# Altium integrated library Renesas Microcontroller H8SX.IntLib: 160 symbols (part 1 of 17)
Pins are listed as number, name and electrical type; pins without a type are passive.

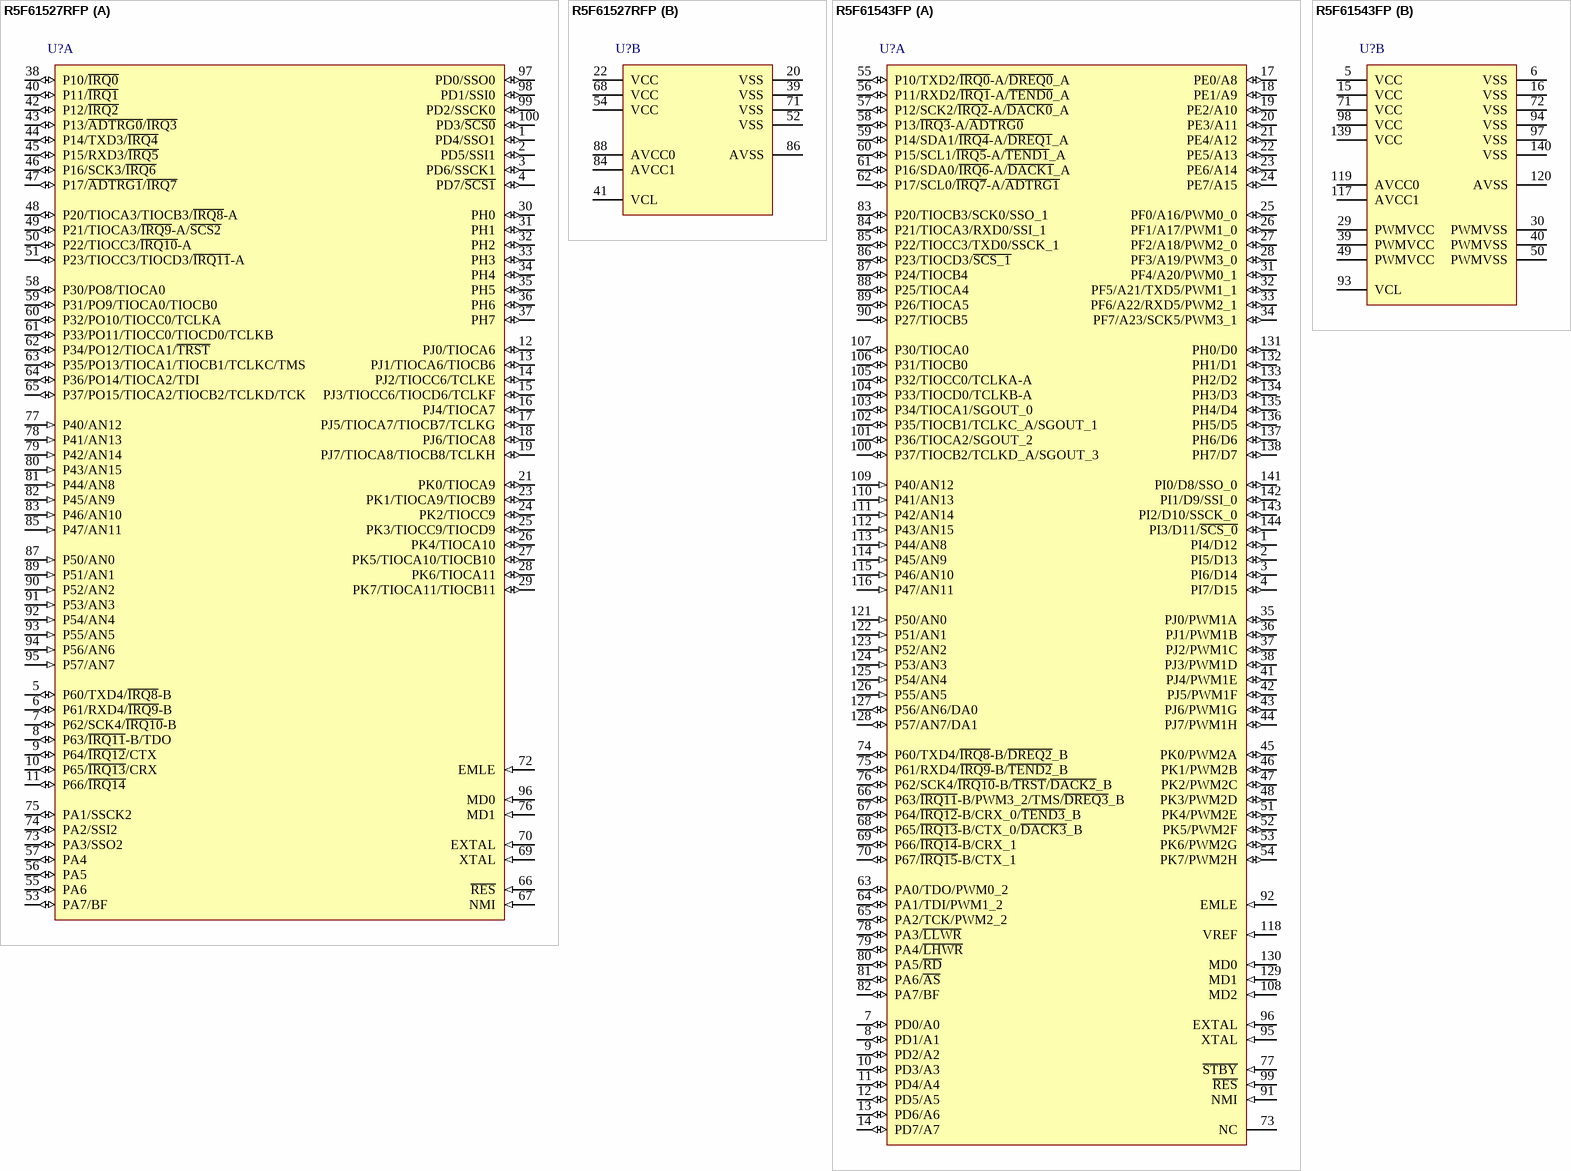
[diagram p0: symbols R5F61527RFP to R5F61543FP]

## R5F61527RFP
designator U?
Flash memory H8SX/1500 Series, 1520R Group MCU, 256K ROM, 12K RAM, FP-100M Pkg; Published: 28-Aug-2009; DatasheetVersion: Rev.1.00, Mar-2006; PackageVersion: Sep-2009; PackageReference: PRQP0100KB-A; Publisher: Altium Limited; PackageDescription: 100-Pin Plastic Quad Flat Pack, 14 x 14 x 2.7 mm Body, 0.5 mm Pitch; Code_JEITA: P-QFP100-14x14-0.50; ComponentLink1Description: Manufacturer Link; ComponentLink1URL: http://sg.renesas.com/fmwk.jsp?cnt=h8sx_family_landing.jsp&fp=/products/mpumcu/h8sx_family/; ComponentLink2Description: Datasheet; ComponentLink2URL: http://documentation.renesas.com/eng/products/mpumcu/rej09b0282_h8sx1520rhm.pdf; ComponentLink3Description: Packaging Specification; ComponentLink3URL: http://sg.renesas.com/media/products/common_info/package/pdf/ic/code/prqp0100kb_a.pdf
footprint PRQP0100KB-A_N (Shrink QFP, 100-Leads, Body 14x14mm, Pitch 0.5mm, IPC Medium Density)
footprint PRQP0100KB-A_L (Shrink QFP, 100-Leads, Body 14x14mm, Pitch 0.5mm, IPC High Density)
footprint PRQP0100KB-A_M (Shrink QFP, 100-Leads, Body 14x14mm, Pitch 0.5mm, IPC Low Density)
part A pins: 1 PD4/SSO1 (io), 2 PD5/SSI1 (io), 3 PD6/SSCK1 (io), 4 PD7/~{SCS1} (io), 5 P60/TXD4/~{IRQ8}-B (io), 6 P61/RXD4/~{IRQ9}-B (io), 7 P62/SCK4/~{IRQ10}-B (io), 8 P63/~{IRQ11}-B/TDO (io), 9 P64/~{IRQ12}/CTX (io), 10 P65/~{IRQ13}/CRX (io), 11 P66/~{IRQ14} (io), 12 PJ0/TIOCA6 (io), 13 PJ1/TIOCA6/TIOCB6 (io), 14 PJ2/TIOCC6/TCLKE (io), 15 PJ3/TIOCC6/TIOCD6/TCLKF (io), 16 PJ4/TIOCA7 (io), 17 PJ5/TIOCA7/TIOCB7/TCLKG (io), 18 PJ6/TIOCA8 (io), 19 PJ7/TIOCA8/TIOCB8/TCLKH (io), 21 PK0/TIOCA9 (io), 23 PK1/TIOCA9/TIOCB9 (io), 24 PK2/TIOCC9 (io), 25 PK3/TIOCC9/TIOCD9 (io), 26 PK4/TIOCA10 (io), 27 PK5/TIOCA10/TIOCB10 (io), 28 PK6/TIOCA11 (io), 29 PK7/TIOCA11/TIOCB11 (io), 30 PH0 (io), 31 PH1 (io), 32 PH2 (io), 33 PH3 (io), 34 PH4 (io), 35 PH5 (io), 36 PH6 (io), 37 PH7 (io), 38 P10/~{IRQ0} (io), 40 P11/~{IRQ1} (io), 42 P12/~{IRQ2} (io), 43 P13/~{ADTRG0}/~{IRQ3} (io), 44 P14/TXD3/~{IRQ4} (io), 45 P15/RXD3/~{IRQ5} (io), 46 P16/SCK3/~{IRQ6} (io), 47 P17/~{ADTRG1}/~{IRQ7} (io), 48 P20/TIOCA3/TIOCB3/~{IRQ8}-A (io), 49 P21/TIOCA3/~{IRQ9}-A/~{SCS2} (io), 50 P22/TIOCC3/~{IRQ10}-A (io), 51 P23/TIOCC3/TIOCD3/~{IRQ11}-A (io), 53 PA7/BF (io), 55 PA6 (io), 56 PA5 (io), 57 PA4 (io), 58 P30/PO8/TIOCA0 (io), 59 P31/PO9/TIOCA0/TIOCB0 (io), 60 P32/PO10/TIOCC0/TCLKA (io), 61 P33/PO11/TIOCC0/TIOCD0/TCLKB (io), 62 P34/PO12/TIOCA1/~{TRST} (io), 63 P35/PO13/TIOCA1/TIOCB1/TCLKC/TMS (io), 64 P36/PO14/TIOCA2/TDI (io), 65 P37/PO15/TIOCA2/TIOCB2/TCLKD/TCK (io), 66 ~{RES} (in), 67 NMI (in), 69 XTAL (in), 70 EXTAL (in), 72 EMLE (in), 73 PA3/SSO2 (io), 74 PA2/SSI2 (io), 75 PA1/SSCK2 (io), 76 MD1 (in), 77 P40/AN12 (in), 78 P41/AN13 (in), 79 P42/AN14 (in), 80 P43/AN15 (in), 81 P44/AN8 (in), 82 P45/AN9 (in), 83 P46/AN10 (in), 85 P47/AN11 (in), 87 P50/AN0 (in), 89 P51/AN1 (in), 90 P52/AN2 (in), 91 P53/AN3 (in), 92 P54/AN4 (in), 93 P55/AN5 (in), 94 P56/AN6 (in), 95 P57/AN7 (in), 96 MD0 (in), 97 PD0/SSO0 (io), 98 PD1/SSI0 (io), 99 PD2/SSCK0 (io), 100 PD3/~{SCS0} (io)
part B pins: 20 VSS, 22 VCC (power), 39 VSS, 41 VCL, 52 VSS, 54 VCC (power), 68 VCC (power), 71 VSS, 84 AVCC1 (power), 86 AVSS, 88 AVCC0 (power)

## R5F61543FP
designator U?
Flash memory H8SX/1500 Series, 1544 Group MCU, 384K ROM, 16K RAM, FP-144L Pkg; Published: 28-Aug-2009; DatasheetVersion: Rev.3.00, Sep-2009; PackageVersion: Sep-2005; PackageReference: PLQP0144KA-A; Publisher: Altium Limited; PackageDescription: 144-Pin Plastic Low Profile QFP, 20 x 20 x 1.4 mm Body, 0.5 mm Pitch; Code_JEITA: P-LQFP144-20x20-0.50; Code_IPC: SQFP50P2200X2200-144; ComponentLink1Description: Manufacturer Link; ComponentLink1URL: http://sg.renesas.com/fmwk.jsp?cnt=h8sx_family_landing.jsp&fp=/products/mpumcu/h8sx_family/; ComponentLink2Description: Datasheet; ComponentLink2URL: http://documentation.renesas.com/eng/products/mpumcu/rej09b0381_h8sx1544hm.pdf; ComponentLink3Description: Packaging Specification; ComponentLink3URL: http://sg.renesas.com/media/products/common_info/package/pdf/ic/code/plqp0144ka_a.pdf
footprint PLQP0144KA-A_N (Shrink QFP, 144-Leads, Body 20x20mm, Pitch 0.5mm, IPC Medium Density)
footprint PLQP0144KA-A_L (Shrink QFP, 144-Leads, Body 20x20mm, Pitch 0.5mm, IPC High Density)
footprint PLQP0144KA-A_M (Shrink QFP, 144-Leads, Body 20x20mm, Pitch 0.5mm, IPC Low Density)
part A pins: 1 PI4/D12 (io), 2 PI5/D13 (io), 3 PI6/D14 (io), 4 PI7/D15 (io), 7 PD0/A0 (io), 8 PD1/A1 (io), 9 PD2/A2 (io), 10 PD3/A3 (io), 11 PD4/A4 (io), 12 PD5/A5 (io), 13 PD6/A6 (io), 14 PD7/A7 (io), 17 PE0/A8 (io), 18 PE1/A9 (io), 19 PE2/A10 (io), 20 PE3/A11 (io), 21 PE4/A12 (io), 22 PE5/A13 (io), 23 PE6/A14 (io), 24 PE7/A15 (io), 25 PF0/A16/PWM0_0 (io), 26 PF1/A17/PWM1_0 (io), 27 PF2/A18/PWM2_0 (io), 28 PF3/A19/PWM3_0 (io), 31 PF4/A20/PWM0_1 (io), 32 PF5/A21/TXD5/PWM1_1 (io), 33 PF6/A22/RXD5/PWM2_1 (io), 34 PF7/A23/SCK5/PWM3_1 (io), 35 PJ0/PWM1A (io), 36 PJ1/PWM1B (io), 37 PJ2/PWM1C (io), 38 PJ3/PWM1D (io), 41 PJ4/PWM1E (io), 42 PJ5/PWM1F (io), 43 PJ6/PWM1G (io), 44 PJ7/PWM1H (io), 45 PK0/PWM2A (io), 46 PK1/PWM2B (io), 47 PK2/PWM2C (io), 48 PK3/PWM2D (io), 51 PK4/PWM2E (io), 52 PK5/PWM2F (io), 53 PK6/PWM2G (io), 54 PK7/PWM2H (io), 55 P10/TXD2/~{IRQ0}-A/~{DREQ0}_A (io), 56 P11/RXD2/~{IRQ1}-A/~{TEND0}_A (io), 57 P12/SCK2/~{IRQ2}-A/~{DACK0}_A (io), 58 P13/~{IRQ3}-A/~{ADTRG0} (io), 59 P14/SDA1/~{IRQ4}-A/~{DREQ1}_A (io), 60 P15/SCL1/~{IRQ5}-A/~{TEND1}_A (io), 61 P16/SDA0/~{IRQ6}-A/~{DACK1}_A (io), 62 P17/SCL0/~{IRQ7}-A/~{ADTRG1} (io), 63 PA0/TDO/PWM0_2 (io), 64 PA1/TDI/PWM1_2 (io), 65 PA2/TCK/PWM2_2 (io), 66 P63/~{IRQ11}-B/PWM3_2/TMS/~{DREQ3}_B (io), 67 P64/~{IRQ12}-B/CRX_0/~{TEND3}_B (io), 68 P65/~{IRQ13}-B/CTX_0/~{DACK3}_B (io), 69 P66/~{IRQ14}-B/CRX_1 (io), 70 P67/~{IRQ15}-B/CTX_1 (io), 73 NC, 74 P60/TXD4/~{IRQ8}-B/~{DREQ2}_B (io), 75 P61/RXD4/~{IRQ9}-B/~{TEND2}_B (io), 76 P62/SCK4/~{IRQ10}-B/~{TRST}/~{DACK2}_B (io), 77 ~{STBY} (in), 78 PA3/~{LLWR} (io), 79 PA4/~{LHWR} (io), 80 PA5/~{RD} (io), 81 PA6/~{AS} (io), 82 PA7/BF (io), 83 P20/TIOCB3/SCK0/SSO_1 (io), 84 P21/TIOCA3/RXD0/SSI_1 (io), 85 P22/TIOCC3/TXD0/SSCK_1 (io), 86 P23/TIOCD3/~{SCS_1} (io), 87 P24/TIOCB4 (io), 88 P25/TIOCA4 (io), 89 P26/TIOCA5 (io), 90 P27/TIOCB5 (io), 91 NMI (in), 92 EMLE (in), 95 XTAL (in), 96 EXTAL (in), 99 ~{RES} (in), 100 P37/TIOCB2/TCLKD_A/SGOUT_3 (io), 101 P36/TIOCA2/SGOUT_2 (io), 102 P35/TIOCB1/TCLKC_A/SGOUT_1 (io), 103 P34/TIOCA1/SGOUT_0 (io), 104 P33/TIOCD0/TCLKB-A (io), 105 P32/TIOCC0/TCLKA-A (io), 106 P31/TIOCB0 (io), 107 P30/TIOCA0 (io), 108 MD2 (in), 109 P40/AN12 (in), 110 P41/AN13 (in), 111 P42/AN14 (in), 112 P43/AN15 (in), 113 P44/AN8 (in), 114 P45/AN9 (in), 115 P46/AN10 (in), 116 P47/AN11 (in), 118 VREF (in), 121 P50/AN0 (in), 122 P51/AN1 (in), 123 P52/AN2 (in), 124 P53/AN3 (in), 125 P54/AN4 (in), 126 P55/AN5 (in), 127 P56/AN6/DA0 (io), 128 P57/AN7/DA1 (io), 129 MD1 (in), 130 MD0 (in), 131 PH0/D0 (io), 132 PH1/D1 (io), 133 PH2/D2 (io), 134 PH3/D3 (io), 135 PH4/D4 (io), 136 PH5/D5 (io), 137 PH6/D6 (io), 138 PH7/D7 (io), 141 PI0/D8/SSO_0 (io), 142 PI1/D9/SSI_0 (io), 143 PI2/D10/SSCK_0 (io), 144 PI3/D11/~{SCS_0} (io)
part B pins: 5 VCC (power), 6 VSS (power), 15 VCC (power), 16 VSS (power), 29 PWMVCC (power), 30 PWMVSS (power), 39 PWMVCC (power), 40 PWMVSS (power), 49 PWMVCC (power), 50 PWMVSS (power), 71 VCC (power), 72 VSS (power), 93 VCL, 94 VSS (power), 97 VSS (power), 98 VCC (power), 117 AVCC1 (power), 119 AVCC0 (power), 120 AVSS (power), 139 VCC (power), 140 VSS (power)

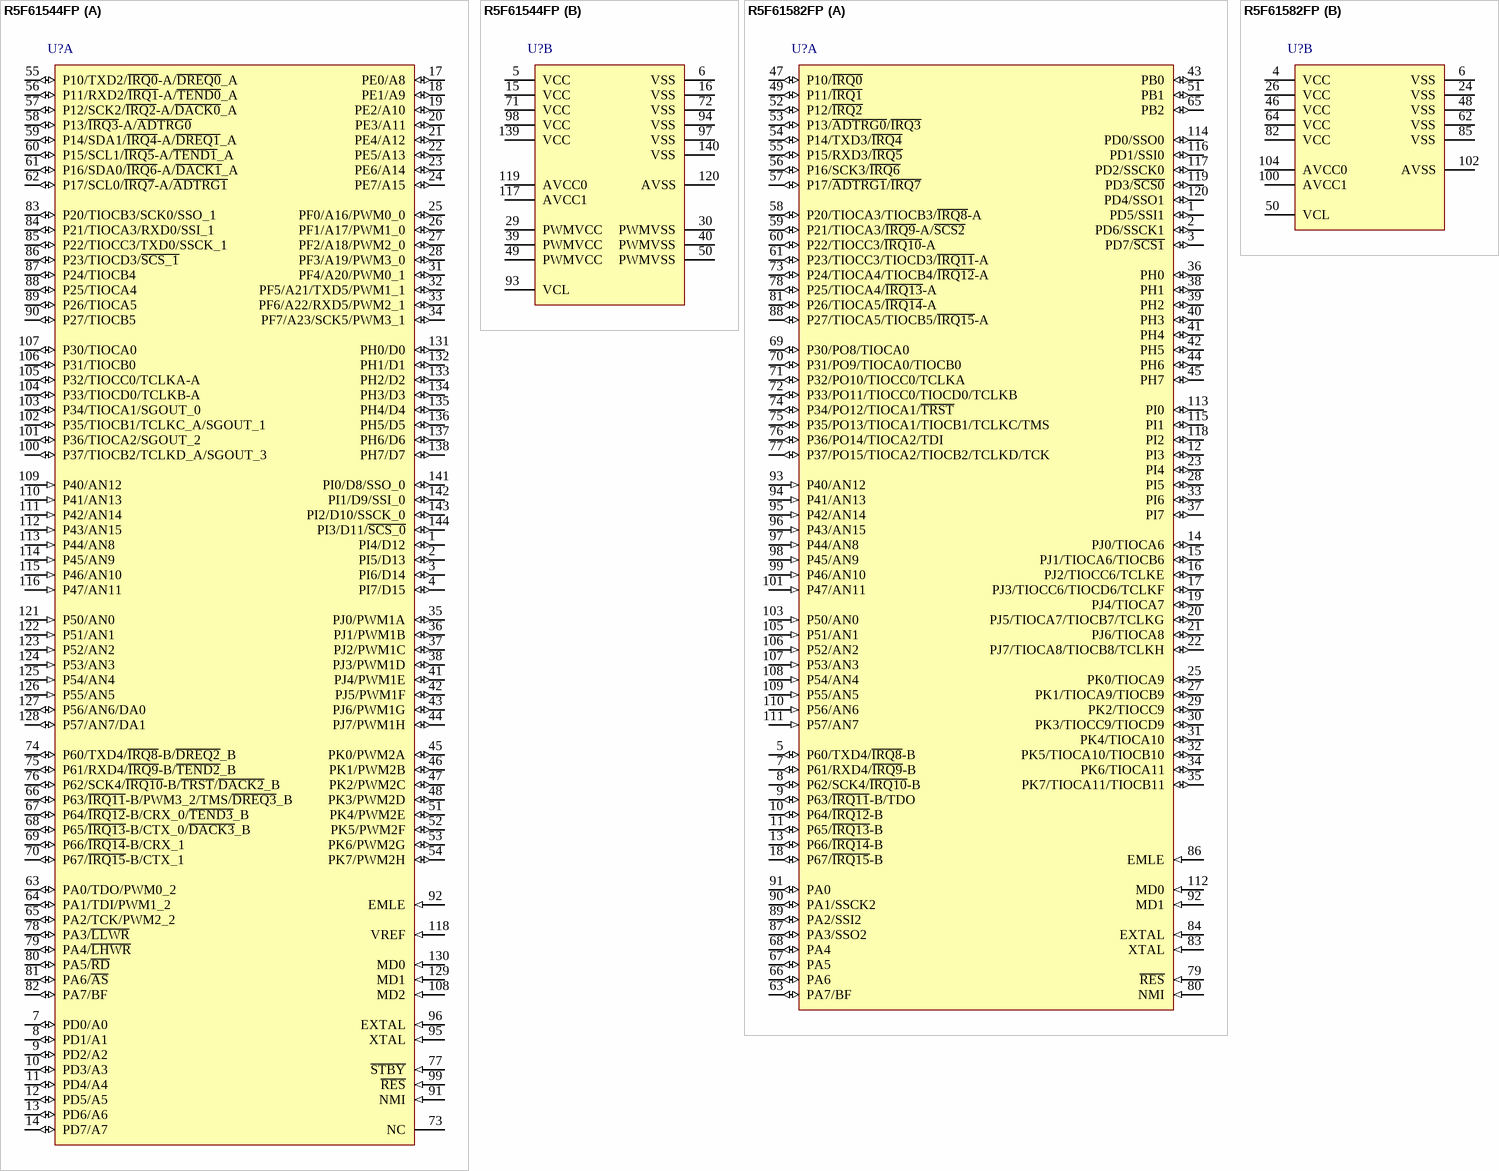
[diagram p1: symbols R5F61544FP to R5F61582FP]

## R5F61544FP
designator U?
Flash memory H8SX/1500 Series, 1544 Group MCU, 512K ROM, 24K RAM, FP-144L Pkg; Published: 28-Aug-2009; DatasheetVersion: Rev.3.00, Sep-2009; PackageVersion: Sep-2005; PackageReference: PLQP0144KA-A; Publisher: Altium Limited; PackageDescription: 144-Pin Plastic Low Profile QFP, 20 x 20 x 1.4 mm Body, 0.5 mm Pitch; Code_JEITA: P-LQFP144-20x20-0.50; Code_IPC: SQFP50P2200X2200-144; ComponentLink1Description: Manufacturer Link; ComponentLink1URL: http://sg.renesas.com/fmwk.jsp?cnt=h8sx_family_landing.jsp&fp=/products/mpumcu/h8sx_family/; ComponentLink2Description: Datasheet; ComponentLink2URL: http://documentation.renesas.com/eng/products/mpumcu/rej09b0381_h8sx1544hm.pdf; ComponentLink3Description: Packaging Specification; ComponentLink3URL: http://sg.renesas.com/media/products/common_info/package/pdf/ic/code/plqp0144ka_a.pdf
footprint PLQP0144KA-A_N (Shrink QFP, 144-Leads, Body 20x20mm, Pitch 0.5mm, IPC Medium Density)
footprint PLQP0144KA-A_L (Shrink QFP, 144-Leads, Body 20x20mm, Pitch 0.5mm, IPC High Density)
footprint PLQP0144KA-A_M (Shrink QFP, 144-Leads, Body 20x20mm, Pitch 0.5mm, IPC Low Density)
part A pins: 1 PI4/D12 (io), 2 PI5/D13 (io), 3 PI6/D14 (io), 4 PI7/D15 (io), 7 PD0/A0 (io), 8 PD1/A1 (io), 9 PD2/A2 (io), 10 PD3/A3 (io), 11 PD4/A4 (io), 12 PD5/A5 (io), 13 PD6/A6 (io), 14 PD7/A7 (io), 17 PE0/A8 (io), 18 PE1/A9 (io), 19 PE2/A10 (io), 20 PE3/A11 (io), 21 PE4/A12 (io), 22 PE5/A13 (io), 23 PE6/A14 (io), 24 PE7/A15 (io), 25 PF0/A16/PWM0_0 (io), 26 PF1/A17/PWM1_0 (io), 27 PF2/A18/PWM2_0 (io), 28 PF3/A19/PWM3_0 (io), 31 PF4/A20/PWM0_1 (io), 32 PF5/A21/TXD5/PWM1_1 (io), 33 PF6/A22/RXD5/PWM2_1 (io), 34 PF7/A23/SCK5/PWM3_1 (io), 35 PJ0/PWM1A (io), 36 PJ1/PWM1B (io), 37 PJ2/PWM1C (io), 38 PJ3/PWM1D (io), 41 PJ4/PWM1E (io), 42 PJ5/PWM1F (io), 43 PJ6/PWM1G (io), 44 PJ7/PWM1H (io), 45 PK0/PWM2A (io), 46 PK1/PWM2B (io), 47 PK2/PWM2C (io), 48 PK3/PWM2D (io), 51 PK4/PWM2E (io), 52 PK5/PWM2F (io), 53 PK6/PWM2G (io), 54 PK7/PWM2H (io), 55 P10/TXD2/~{IRQ0}-A/~{DREQ0}_A (io), 56 P11/RXD2/~{IRQ1}-A/~{TEND0}_A (io), 57 P12/SCK2/~{IRQ2}-A/~{DACK0}_A (io), 58 P13/~{IRQ3}-A/~{ADTRG0} (io), 59 P14/SDA1/~{IRQ4}-A/~{DREQ1}_A (io), 60 P15/SCL1/~{IRQ5}-A/~{TEND1}_A (io), 61 P16/SDA0/~{IRQ6}-A/~{DACK1}_A (io), 62 P17/SCL0/~{IRQ7}-A/~{ADTRG1} (io), 63 PA0/TDO/PWM0_2 (io), 64 PA1/TDI/PWM1_2 (io), 65 PA2/TCK/PWM2_2 (io), 66 P63/~{IRQ11}-B/PWM3_2/TMS/~{DREQ3}_B (io), 67 P64/~{IRQ12}-B/CRX_0/~{TEND3}_B (io), 68 P65/~{IRQ13}-B/CTX_0/~{DACK3}_B (io), 69 P66/~{IRQ14}-B/CRX_1 (io), 70 P67/~{IRQ15}-B/CTX_1 (io), 73 NC, 74 P60/TXD4/~{IRQ8}-B/~{DREQ2}_B (io), 75 P61/RXD4/~{IRQ9}-B/~{TEND2}_B (io), 76 P62/SCK4/~{IRQ10}-B/~{TRST}/~{DACK2}_B (io), 77 ~{STBY} (in), 78 PA3/~{LLWR} (io), 79 PA4/~{LHWR} (io), 80 PA5/~{RD} (io), 81 PA6/~{AS} (io), 82 PA7/BF (io), 83 P20/TIOCB3/SCK0/SSO_1 (io), 84 P21/TIOCA3/RXD0/SSI_1 (io), 85 P22/TIOCC3/TXD0/SSCK_1 (io), 86 P23/TIOCD3/~{SCS_1} (io), 87 P24/TIOCB4 (io), 88 P25/TIOCA4 (io), 89 P26/TIOCA5 (io), 90 P27/TIOCB5 (io), 91 NMI (in), 92 EMLE (in), 95 XTAL (in), 96 EXTAL (in), 99 ~{RES} (in), 100 P37/TIOCB2/TCLKD_A/SGOUT_3 (io), 101 P36/TIOCA2/SGOUT_2 (io), 102 P35/TIOCB1/TCLKC_A/SGOUT_1 (io), 103 P34/TIOCA1/SGOUT_0 (io), 104 P33/TIOCD0/TCLKB-A (io), 105 P32/TIOCC0/TCLKA-A (io), 106 P31/TIOCB0 (io), 107 P30/TIOCA0 (io), 108 MD2 (in), 109 P40/AN12 (in), 110 P41/AN13 (in), 111 P42/AN14 (in), 112 P43/AN15 (in), 113 P44/AN8 (in), 114 P45/AN9 (in), 115 P46/AN10 (in), 116 P47/AN11 (in), 118 VREF (in), 121 P50/AN0 (in), 122 P51/AN1 (in), 123 P52/AN2 (in), 124 P53/AN3 (in), 125 P54/AN4 (in), 126 P55/AN5 (in), 127 P56/AN6/DA0 (io), 128 P57/AN7/DA1 (io), 129 MD1 (in), 130 MD0 (in), 131 PH0/D0 (io), 132 PH1/D1 (io), 133 PH2/D2 (io), 134 PH3/D3 (io), 135 PH4/D4 (io), 136 PH5/D5 (io), 137 PH6/D6 (io), 138 PH7/D7 (io), 141 PI0/D8/SSO_0 (io), 142 PI1/D9/SSI_0 (io), 143 PI2/D10/SSCK_0 (io), 144 PI3/D11/~{SCS_0} (io)
part B pins: 5 VCC (power), 6 VSS (power), 15 VCC (power), 16 VSS (power), 29 PWMVCC (power), 30 PWMVSS (power), 39 PWMVCC (power), 40 PWMVSS (power), 49 PWMVCC (power), 50 PWMVSS (power), 71 VCC (power), 72 VSS (power), 93 VCL, 94 VSS (power), 97 VSS (power), 98 VCC (power), 117 AVCC1 (power), 119 AVCC0 (power), 120 AVSS (power), 139 VCC (power), 140 VSS (power)

## R5F61582FP
designator U?
Flash memory H8SX/1500 Series, 1580 Group MCU, 256K ROM, 12K RAM, FP-120B Pkg; Published: 28-Aug-2009; DatasheetVersion: Rev.2.00, Mar-2006; PackageVersion: Sep-2005; PackageReference: PLQP0120LA-A; Publisher: Altium Limited; PackageDescription: 120-Pin Plastic Low Profile QFP, 14 x 14 x 1.4 mm Body, 0.4 mm Pitch; Code_JEITA: P-LQFP120-14x14-0.40; ComponentLink1Description: Manufacturer Link; ComponentLink1URL: http://sg.renesas.com/fmwk.jsp?cnt=h8sx_family_landing.jsp&fp=/products/mpumcu/h8sx_family/; ComponentLink2Description: Datasheet; ComponentLink2URL: http://documentation.renesas.com/eng/products/mpumcu/rej09b0199_h8sx1582.pdf; ComponentLink3Description: Packaging Specification; ComponentLink3URL: http://sg.renesas.com/media/products/common_info/package/pdf/ic/code/plqp0120la_a.pdf
footprint PLQP0120LA-A_N (Shrink QFP, 120-Leads, Body 14x14mm, Pitch 0.4mm, IPC Medium Density)
footprint PLQP0120LA-A_L (Shrink QFP, 120-Leads, Body 14x14mm, Pitch 0.4mm, IPC High Density)
footprint PLQP0120LA-A_M (Shrink QFP, 120-Leads, Body 14x14mm, Pitch 0.4mm, IPC Low Density)
part A pins: 1 PD5/SSI1 (io), 2 PD6/SSCK1 (io), 3 PD7/~{SCS1} (io), 5 P60/TXD4/~{IRQ8}-B (io), 7 P61/RXD4/~{IRQ9}-B (io), 8 P62/SCK4/~{IRQ10}-B (io), 9 P63/~{IRQ11}-B/TDO (io), 10 P64/~{IRQ12}-B (io), 11 P65/~{IRQ13}-B (io), 12 PI3 (io), 13 P66/~{IRQ14}-B (io), 14 PJ0/TIOCA6 (io), 15 PJ1/TIOCA6/TIOCB6 (io), 16 PJ2/TIOCC6/TCLKE (io), 17 PJ3/TIOCC6/TIOCD6/TCLKF (io), 18 P67/~{IRQ15}-B (io), 19 PJ4/TIOCA7 (io), 20 PJ5/TIOCA7/TIOCB7/TCLKG (io), 21 PJ6/TIOCA8 (io), 22 PJ7/TIOCA8/TIOCB8/TCLKH (io), 23 PI4 (io), 25 PK0/TIOCA9 (io), 27 PK1/TIOCA9/TIOCB9 (io), 28 PI5 (io), 29 PK2/TIOCC9 (io), 30 PK3/TIOCC9/TIOCD9 (io), 31 PK4/TIOCA10 (io), 32 PK5/TIOCA10/TIOCB10 (io), 33 PI6 (io), 34 PK6/TIOCA11 (io), 35 PK7/TIOCA11/TIOCB11 (io), 36 PH0 (io), 37 PI7 (io), 38 PH1 (io), 39 PH2 (io), 40 PH3 (io), 41 PH4 (io), 42 PH5 (io), 43 PB0 (io), 44 PH6 (io), 45 PH7 (io), 47 P10/~{IRQ0} (io), 49 P11/~{IRQ1} (io), 51 PB1 (io), 52 P12/~{IRQ2} (io), 53 P13/~{ADTRG0}/~{IRQ3} (io), 54 P14/TXD3/~{IRQ4} (io), 55 P15/RXD3/~{IRQ5} (io), 56 P16/SCK3/~{IRQ6} (io), 57 P17/~{ADTRG1}/~{IRQ7} (io), 58 P20/TIOCA3/TIOCB3/~{IRQ8}-A (io), 59 P21/TIOCA3/~{IRQ9}-A/~{SCS2} (io), 60 P22/TIOCC3/~{IRQ10}-A (io), 61 P23/TIOCC3/TIOCD3/~{IRQ11}-A (io), 63 PA7/BF (io), 65 PB2 (io), 66 PA6 (io), 67 PA5 (io), 68 PA4 (io), 69 P30/PO8/TIOCA0 (io), 70 P31/PO9/TIOCA0/TIOCB0 (io), 71 P32/PO10/TIOCC0/TCLKA (io), 72 P33/PO11/TIOCC0/TIOCD0/TCLKB (io), 73 P24/TIOCA4/TIOCB4/~{IRQ12}-A (io), 74 P34/PO12/TIOCA1/~{TRST} (io), 75 P35/PO13/TIOCA1/TIOCB1/TCLKC/TMS (io), 76 P36/PO14/TIOCA2/TDI (io), 77 P37/PO15/TIOCA2/TIOCB2/TCLKD/TCK (io), 78 P25/TIOCA4/~{IRQ13}-A (io), 79 ~{RES} (in), 80 NMI (in), 81 P26/TIOCA5/~{IRQ14}-A (io), 83 XTAL (in), 84 EXTAL (in), 86 EMLE (in), 87 PA3/SSO2 (io), 88 P27/TIOCA5/TIOCB5/~{IRQ15}-A (io), 89 PA2/SSI2 (io), 90 PA1/SSCK2 (io), 91 PA0 (io), 92 MD1 (in), 93 P40/AN12 (in), 94 P41/AN13 (in), 95 P42/AN14 (in), 96 P43/AN15 (in), 97 P44/AN8 (in), 98 P45/AN9 (in), 99 P46/AN10 (in), 101 P47/AN11 (in), 103 P50/AN0 (in), 105 P51/AN1 (in), 106 P52/AN2 (in), 107 P53/AN3 (in), 108 P54/AN4 (in), 109 P55/AN5 (in), 110 P56/AN6 (in), 111 P57/AN7 (in), 112 MD0 (in), 113 PI0 (io), 114 PD0/SSO0 (io), 115 PI1 (io), 116 PD1/SSI0 (io), 117 PD2/SSCK0 (io), 118 PI2 (io), 119 PD3/~{SCS0} (io), 120 PD4/SSO1 (io)
part B pins: 4 VCC (power), 6 VSS (power), 24 VSS (power), 26 VCC (power), 46 VCC (power), 48 VSS (power), 50 VCL, 62 VSS (power), 64 VCC (power), 82 VCC (power), 85 VSS (power), 100 AVCC1 (power), 102 AVSS (power), 104 AVCC0 (power)

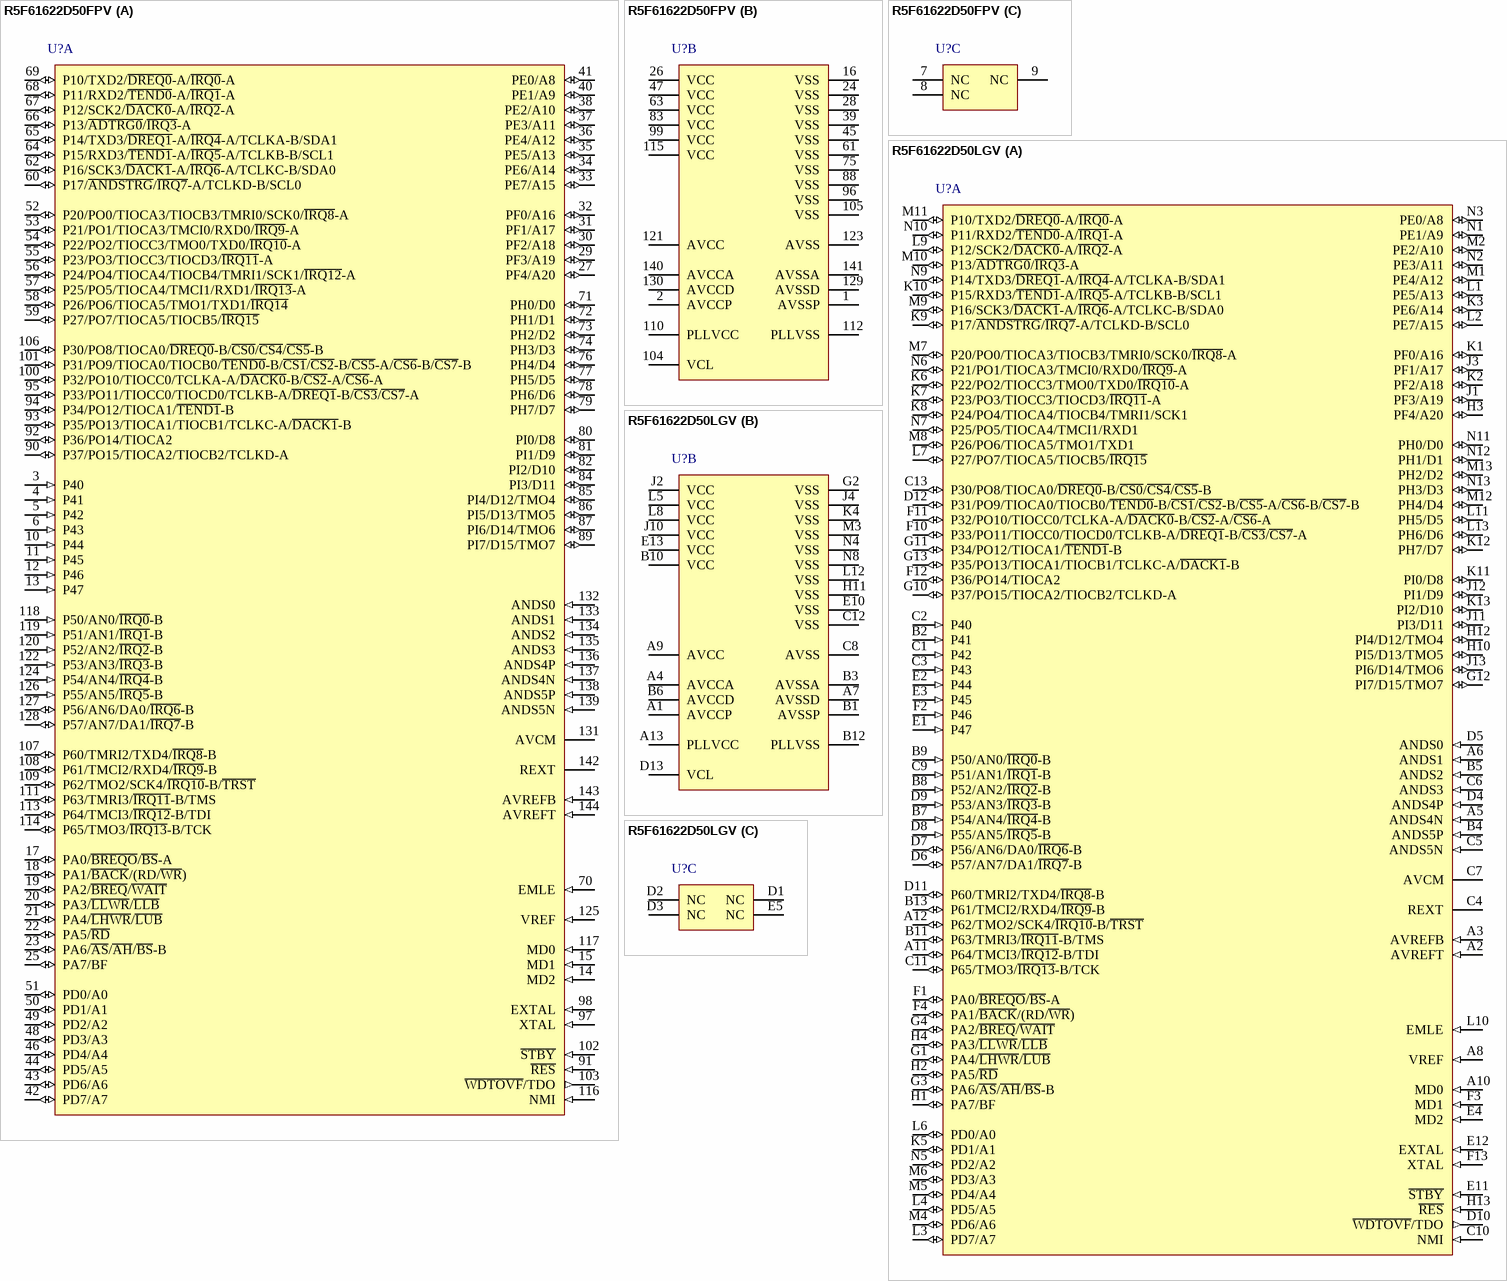
[diagram p2: symbols R5F61622D50FPV to R5F61622D50LGV]

## R5F61622D50FPV
designator U?
Flash memory H8SX/1600 Series, 1622 Group MCU, 256K ROM, 24K RAM, FP-144L Pkg; Published: 28-Aug-2009; DatasheetVersion: Rev.2.00, Sep-2009; PackageVersion: Sep-2005; PackageReference: PLQP0144KA-A; Publisher: Altium Limited; PackageDescription: 144-Pin Plastic Low Profile QFP, 20 x 20 x 1.4 mm Body, 0.5 mm Pitch; Code_JEITA: P-LQFP144-20x20-0.50; Code_IPC: SQFP50P2200X2200-144; ComponentLink1Description: Manufacturer Link; ComponentLink1URL: http://sg.renesas.com/fmwk.jsp?cnt=h8sx_family_landing.jsp&fp=/products/mpumcu/h8sx_family/; ComponentLink2Description: Datasheet; ComponentLink2URL: http://documentation.renesas.com/eng/products/mpumcu/rej09b0414_h8sx1622hm.pdf; ComponentLink3Description: Packaging Specification; ComponentLink3URL: http://sg.renesas.com/media/products/common_info/package/pdf/ic/code/plqp0144ka_a.pdf
footprint PLQP0144KA-A_N (Shrink QFP, 144-Leads, Body 20x20mm, Pitch 0.5mm, IPC Medium Density)
footprint PLQP0144KA-A_L (Shrink QFP, 144-Leads, Body 20x20mm, Pitch 0.5mm, IPC High Density)
footprint PLQP0144KA-A_M (Shrink QFP, 144-Leads, Body 20x20mm, Pitch 0.5mm, IPC Low Density)
part A pins: 3 P40 (in), 4 P41 (in), 5 P42 (in), 6 P43 (in), 10 P44 (in), 11 P45 (in), 12 P46 (in), 13 P47 (in), 14 MD2 (in), 15 MD1 (in), 17 PA0/~{BREQO}/~{BS}-A (io), 18 PA1/~{BACK}/(RD/~{WR}) (io), 19 PA2/~{BREQ}/~{WAIT} (io), 20 PA3/~{LLWR}/~{LLB} (io), 21 PA4/~{LHWR}/~{LUB} (io), 22 PA5/~{RD} (io), 23 PA6/~{AS}/~{AH}/~{BS}-B (io), 25 PA7/BF (io), 27 PF4/A20 (io), 29 PF3/A19 (io), 30 PF2/A18 (io), 31 PF1/A17 (io), 32 PF0/A16 (io), 33 PE7/A15 (io), 34 PE6/A14 (io), 35 PE5/A13 (io), 36 PE4/A12 (io), 37 PE3/A11 (io), 38 PE2/A10 (io), 40 PE1/A9 (io), 41 PE0/A8 (io), 42 PD7/A7 (io), 43 PD6/A6 (io), 44 PD5/A5 (io), 46 PD4/A4 (io), 48 PD3/A3 (io), 49 PD2/A2 (io), 50 PD1/A1 (io), 51 PD0/A0 (io), 52 P20/PO0/TIOCA3/TIOCB3/TMRI0/SCK0/~{IRQ8}-A (io), 53 P21/PO1/TIOCA3/TMCI0/RXD0/~{IRQ9}-A (io), 54 P22/PO2/TIOCC3/TMO0/TXD0/~{IRQ10}-A (io), 55 P23/PO3/TIOCC3/TIOCD3/~{IRQ11}-A (io), 56 P24/PO4/TIOCA4/TIOCB4/TMRI1/SCK1/~{IRQ12}-A (io), 57 P25/PO5/TIOCA4/TMCI1/RXD1/~{IRQ13}-A (io), 58 P26/PO6/TIOCA5/TMO1/TXD1/~{IRQ14} (io), 59 P27/PO7/TIOCA5/TIOCB5/~{IRQ15} (io), 60 P17/~{ANDSTRG}/~{IRQ7}-A/TCLKD-B/SCL0 (io), 62 P16/SCK3/~{DACK1}-A/~{IRQ6}-A/TCLKC-B/SDA0 (io), 64 P15/RXD3/~{TEND1}-A/~{IRQ5}-A/TCLKB-B/SCL1 (io), 65 P14/TXD3/~{DREQ1}-A/~{IRQ4}-A/TCLKA-B/SDA1 (io), 66 P13/~{ADTRG0}/~{IRQ3}-A (io), 67 P12/SCK2/~{DACK0}-A/~{IRQ2}-A (io), 68 P11/RXD2/~{TEND0}-A/~{IRQ1}-A (io), 69 P10/TXD2/~{DREQ0}-A/~{IRQ0}-A (io), 70 EMLE (in), 71 PH0/D0 (io), 72 PH1/D1 (io), 73 PH2/D2 (io), 74 PH3/D3 (io), 76 PH4/D4 (io), 77 PH5/D5 (io), 78 PH6/D6 (io), 79 PH7/D7 (io), 80 PI0/D8 (io), 81 PI1/D9 (io), 82 PI2/D10 (io), 84 PI3/D11 (io), 85 PI4/D12/TMO4 (io), 86 PI5/D13/TMO5 (io), 87 PI6/D14/TMO6 (io), 89 PI7/D15/TMO7 (io), 90 P37/PO15/TIOCA2/TIOCB2/TCLKD-A (io), 91 ~{RES} (in), 92 P36/PO14/TIOCA2 (io), 93 P35/PO13/TIOCA1/TIOCB1/TCLKC-A/~{DACK1}-B (io), 94 P34/PO12/TIOCA1/~{TEND1}-B (io), 95 P33/PO11/TIOCC0/TIOCD0/TCLKB-A/~{DREQ1}-B/~{CS3}/~{CS7}-A (io), 97 XTAL (in), 98 EXTAL (in), 100 P32/PO10/TIOCC0/TCLKA-A/~{DACK0}-B/~{CS2}-A/~{CS6}-A (io), 101 P31/PO9/TIOCA0/TIOCB0/~{TEND0}-B/~{CS1}/~{CS2}-B/~{CS5}-A/~{CS6}-B/~{CS7}-B (io), 102 ~{STBY} (in), 103 ~{WDTOVF}/TDO (out), 106 P30/PO8/TIOCA0/~{DREQ0}-B/~{CS0}/~{CS4}/~{CS5}-B (io), 107 P60/TMRI2/TXD4/~{IRQ8}-B (io), 108 P61/TMCI2/RXD4/~{IRQ9}-B (io), 109 P62/TMO2/SCK4/~{IRQ10}-B/~{TRST} (io), 111 P63/TMRI3/~{IRQ11}-B/TMS (io), 113 P64/TMCI3/~{IRQ12}-B/TDI (io), 114 P65/TMO3/~{IRQ13}-B/TCK (io), 116 NMI (in), 117 MD0 (in), 118 P50/AN0/~{IRQ0}-B (in), 119 P51/AN1/~{IRQ1}-B (in), 120 P52/AN2/~{IRQ2}-B (in), 122 P53/AN3/~{IRQ3}-B (in), 124 P54/AN4/~{IRQ4}-B (in), 125 VREF (in), 126 P55/AN5/~{IRQ5}-B (in), 127 P56/AN6/DA0/~{IRQ6}-B (io), 128 P57/AN7/DA1/~{IRQ7}-B (io), 131 AVCM, 132 ANDS0 (in), 133 ANDS1 (in), 134 ANDS2 (in), 135 ANDS3 (in), 136 ANDS4P (in), 137 ANDS4N (in), 138 ANDS5P (in), 139 ANDS5N (in), 142 REXT, 143 AVREFB (in), 144 AVREFT (in)
part B pins: 1 AVSSP (power), 2 AVCCP (power), 16 VSS (power), 24 VSS (power), 26 VCC (power), 28 VSS (power), 39 VSS (power), 45 VSS (power), 47 VCC (power), 61 VSS (power), 63 VCC (power), 75 VSS (power), 83 VCC (power), 88 VSS (power), 96 VSS (power), 99 VCC (power), 104 VCL, 105 VSS (power), 110 PLLVCC (power), 112 PLLVSS (power), 115 VCC (power), 121 AVCC (power), 123 AVSS (power), 129 AVSSD (power), 130 AVCCD (power), 140 AVCCA (power), 141 AVSSA (power)
part C pins: 7 NC, 8 NC, 9 NC

## R5F61622D50LGV
designator U?
Flash memory H8SX/1600 Series, 1622 Group MCU, 256K ROM, 24K RAM, TLP-145V Pkg; Published: 28-Aug-2009; DatasheetVersion: Rev.2.00, Sep-2009; PackageVersion: Jun-2006; PackageReference: PTLG0145JB-A; Publisher: Altium Limited; PackageDescription: 145-Ball Plastic Thin Fine-Pitch BGA, 9 x 9 mm Body, 0.65 mm Pitch; Code_JEITA: P-TFLGA145-9x9-0.65; ComponentLink1Description: Manufacturer Link; ComponentLink1URL: http://sg.renesas.com/fmwk.jsp?cnt=h8sx_family_landing.jsp&fp=/products/mpumcu/h8sx_family/; ComponentLink2Description: Datasheet; ComponentLink2URL: http://documentation.renesas.com/eng/products/mpumcu/rej09b0414_h8sx1622hm.pdf; ComponentLink3Description: Packaging Specification; ComponentLink3URL: http://sg.renesas.com/media/products/common_info/package/pdf/ic/code/ptlg0145jb_a.pdf
footprint PTLG0145JB-A (BGA, 145-Leads, Body 9x9mm, Pitch 0.65mm)
part A pins: A2 AVREFT (in), A3 AVREFB (in), A5 ANDS4N (in), A6 ANDS1 (in), A8 VREF (in), A10 MD0 (in), A11 P64/TMCI3/~{IRQ12}-B/TDI (io), A12 P62/TMO2/SCK4/~{IRQ10}-B/~{TRST} (io), B2 P41 (in), B4 ANDS5P (in), B5 ANDS2 (in), B7 P54/AN4/~{IRQ4}-B (in), B8 P52/AN2/~{IRQ2}-B (in), B9 P50/AN0/~{IRQ0}-B (in), B11 P63/TMRI3/~{IRQ11}-B/TMS (io), B13 P61/TMCI2/RXD4/~{IRQ9}-B (io), C1 P42 (in), C2 P40 (in), C3 P43 (in), C4 REXT, C5 ANDS5N (in), C6 ANDS3 (in), C7 AVCM, C9 P51/AN1/~{IRQ1}-B (in), C10 NMI (in), C11 P65/TMO3/~{IRQ13}-B/TCK (io), C13 P30/PO8/TIOCA0/~{DREQ0}-B/~{CS0}/~{CS4}/~{CS5}-B (io), D4 ANDS4P (in), D5 ANDS0 (in), D6 P57/AN7/DA1/~{IRQ7}-B (io), D7 P56/AN6/DA0/~{IRQ6}-B (io), D8 P55/AN5/~{IRQ5}-B (in), D9 P53/AN3/~{IRQ3}-B (in), D10 ~{WDTOVF}/TDO (out), D11 P60/TMRI2/TXD4/~{IRQ8}-B (io), D12 P31/PO9/TIOCA0/TIOCB0/~{TEND0}-B/~{CS1}/~{CS2}-B/~{CS5}-A/~{CS6}-B/~{CS7}-B (io), E1 P47 (in), E2 P44 (in), E3 P45 (in), E4 MD2 (in), E11 ~{STBY} (in), E12 EXTAL (in), F1 PA0/~{BREQO}/~{BS}-A (io), F2 P46 (in), F3 MD1 (in), F4 PA1/~{BACK}/(RD/~{WR}) (io), F10 P33/PO11/TIOCC0/TIOCD0/TCLKB-A/~{DREQ1}-B/~{CS3}/~{CS7}-A (io), F11 P32/PO10/TIOCC0/TCLKA-A/~{DACK0}-B/~{CS2}-A/~{CS6}-A (io), F12 P36/PO14/TIOCA2 (io), F13 XTAL (in), G1 PA4/~{LHWR}/~{LUB} (io), G3 PA6/~{AS}/~{AH}/~{BS}-B (io), G4 PA2/~{BREQ}/~{WAIT} (io), G10 P37/PO15/TIOCA2/TIOCB2/TCLKD-A (io), G11 P34/PO12/TIOCA1/~{TEND1}-B (io), G12 PI7/D15/TMO7 (io), G13 P35/PO13/TIOCA1/TIOCB1/TCLKC-A/~{DACK1}-B (io), H1 PA7/BF (io), H2 PA5/~{RD} (io), H3 PF4/A20 (io), H4 PA3/~{LLWR}/~{LLB} (io), H10 PI5/D13/TMO5 (io), H12 PI4/D12/TMO4 (io), H13 ~{RES} (in), J1 PF3/A19 (io), J3 PF1/A17 (io), J11 PI3/D11 (io), J12 PI1/D9 (io), J13 PI6/D14/TMO6 (io), K1 PF0/A16 (io), K2 PF2/A18 (io), K3 PE6/A14 (io), K5 PD1/A1 (io), K6 P22/PO2/TIOCC3/TMO0/TXD0/~{IRQ10}-A (io), K7 P23/PO3/TIOCC3/TIOCD3/~{IRQ11}-A (io), K8 P24/PO4/TIOCA4/TIOCB4/TMRI1/SCK1 (io), K9 P17/~{ANDSTRG}/~{IRQ7}-A/TCLKD-B/SCL0 (io), K10 P15/RXD3/~{TEND1}-A/~{IRQ5}-A/TCLKB-B/SCL1 (io), K11 PI0/D8 (io), K12 PH7/D7 (io), K13 PI2/D10 (io), L1 PE5/A13 (io), L2 PE7/A15 (io), L3 PD7/A7 (io), L4 PD5/A5 (io), L6 PD0/A0 (io), L7 P27/PO7/TIOCA5/TIOCB5/~{IRQ15} (io), L9 P12/SCK2/~{DACK0}-A/~{IRQ2}-A (io), L10 EMLE (in), L11 PH5/D5 (io), L13 PH6/D6 (io), M1 PE4/A12 (io), M2 PE2/A10 (io), M4 PD6/A6 (io), M5 PD4/A4 (io), M6 PD3/A3 (io), M7 P20/PO0/TIOCA3/TIOCB3/TMRI0/SCK0/~{IRQ8}-A (io), M8 P26/PO6/TIOCA5/TMO1/TXD1 (io), M9 P16/SCK3/~{DACK1}-A/~{IRQ6}-A/TCLKC-B/SDA0 (io), M10 P13/~{ADTRG0}/~{IRQ3}-A (io), M11 P10/TXD2/~{DREQ0}-A/~{IRQ0}-A (io), M12 PH4/D4 (io), M13 PH2/D2 (io), N1 PE1/A9 (io), N2 PE3/A11 (io), N3 PE0/A8 (io), N5 PD2/A2 (io), N6 P21/PO1/TIOCA3/TMCI0/RXD0/~{IRQ9}-A (io), N7 P25/PO5/TIOCA4/TMCI1/RXD1 (io), N9 P14/TXD3/~{DREQ1}-A/~{IRQ4}-A/TCLKA-B/SDA1 (io), N10 P11/RXD2/~{TEND0}-A/~{IRQ1}-A (io), N11 PH0/D0 (io), N12 PH1/D1 (io), N13 PH3/D3 (io)
part B pins: A1 AVCCP (power), A4 AVCCA (power), A7 AVSSD (power), A9 AVCC (power), A13 PLLVCC (power), B1 AVSSP (power), B3 AVSSA (power), B6 AVCCD (power), B10 VCC (power), B12 PLLVSS (power), C8 AVSS (power), C12 VSS (power), D13 VCL, E10 VSS (power), E13 VCC (power), G2 VSS (power), H11 VSS (power), J2 VCC (power), J4 VSS (power), J10 VCC (power), K4 VSS (power), L5 VCC (power), L8 VCC (power), L12 VSS (power), M3 VSS (power), N4 VSS (power), N8 VSS (power)
part C pins: D1 NC, D2 NC, D3 NC, E5 NC

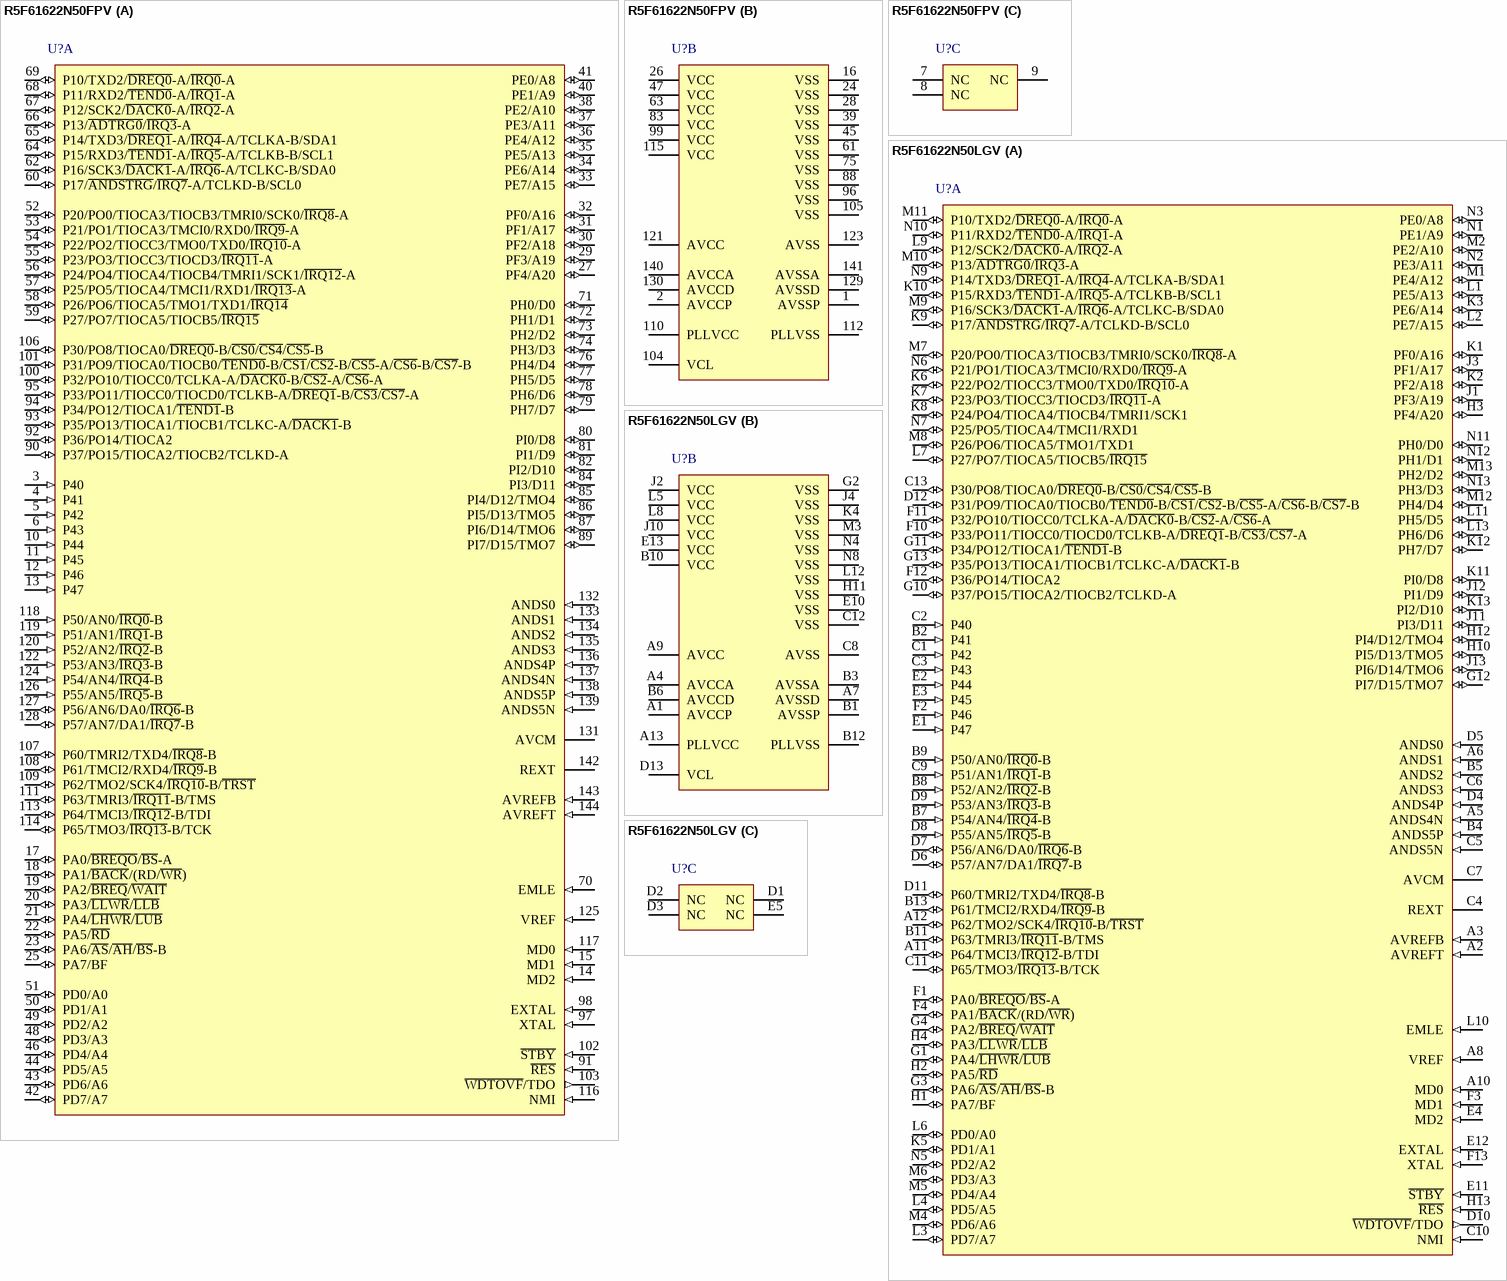
[diagram p3: symbols R5F61622N50FPV to R5F61622N50LGV]

## R5F61622N50FPV
designator U?
Flash memory H8SX/1600 Series, 1622 Group MCU, 256K ROM, 24K RAM, FP-144L Pkg; Published: 28-Aug-2009; DatasheetVersion: Rev.2.00, Sep-2009; PackageVersion: Sep-2005; PackageReference: PLQP0144KA-A; Publisher: Altium Limited; PackageDescription: 144-Pin Plastic Low Profile QFP, 20 x 20 x 1.4 mm Body, 0.5 mm Pitch; Supplier 1: Digi-Key; Supplier Part Number 1: R5F61622N50FPV-ND; Supplier 2: Farnell; Supplier Part Number 2: 1677793; Code_JEITA: P-LQFP144-20x20-0.50; Code_IPC: SQFP50P2200X2200-144; ComponentLink1Description: Manufacturer Link; ComponentLink1URL: http://sg.renesas.com/fmwk.jsp?cnt=h8sx_family_landing.jsp&fp=/products/mpumcu/h8sx_family/; ComponentLink2Description: Datasheet; ComponentLink2URL: http://documentation.renesas.com/eng/products/mpumcu/rej09b0414_h8sx1622hm.pdf; ComponentLink3Description: Packaging Specification; ComponentLink3URL: http://sg.renesas.com/media/products/common_info/package/pdf/ic/code/plqp0144ka_a.pdf
footprint PLQP0144KA-A_N (Shrink QFP, 144-Leads, Body 20x20mm, Pitch 0.5mm, IPC Medium Density)
footprint PLQP0144KA-A_L (Shrink QFP, 144-Leads, Body 20x20mm, Pitch 0.5mm, IPC High Density)
footprint PLQP0144KA-A_M (Shrink QFP, 144-Leads, Body 20x20mm, Pitch 0.5mm, IPC Low Density)
part A pins: 3 P40 (in), 4 P41 (in), 5 P42 (in), 6 P43 (in), 10 P44 (in), 11 P45 (in), 12 P46 (in), 13 P47 (in), 14 MD2 (in), 15 MD1 (in), 17 PA0/~{BREQO}/~{BS}-A (io), 18 PA1/~{BACK}/(RD/~{WR}) (io), 19 PA2/~{BREQ}/~{WAIT} (io), 20 PA3/~{LLWR}/~{LLB} (io), 21 PA4/~{LHWR}/~{LUB} (io), 22 PA5/~{RD} (io), 23 PA6/~{AS}/~{AH}/~{BS}-B (io), 25 PA7/BF (io), 27 PF4/A20 (io), 29 PF3/A19 (io), 30 PF2/A18 (io), 31 PF1/A17 (io), 32 PF0/A16 (io), 33 PE7/A15 (io), 34 PE6/A14 (io), 35 PE5/A13 (io), 36 PE4/A12 (io), 37 PE3/A11 (io), 38 PE2/A10 (io), 40 PE1/A9 (io), 41 PE0/A8 (io), 42 PD7/A7 (io), 43 PD6/A6 (io), 44 PD5/A5 (io), 46 PD4/A4 (io), 48 PD3/A3 (io), 49 PD2/A2 (io), 50 PD1/A1 (io), 51 PD0/A0 (io), 52 P20/PO0/TIOCA3/TIOCB3/TMRI0/SCK0/~{IRQ8}-A (io), 53 P21/PO1/TIOCA3/TMCI0/RXD0/~{IRQ9}-A (io), 54 P22/PO2/TIOCC3/TMO0/TXD0/~{IRQ10}-A (io), 55 P23/PO3/TIOCC3/TIOCD3/~{IRQ11}-A (io), 56 P24/PO4/TIOCA4/TIOCB4/TMRI1/SCK1/~{IRQ12}-A (io), 57 P25/PO5/TIOCA4/TMCI1/RXD1/~{IRQ13}-A (io), 58 P26/PO6/TIOCA5/TMO1/TXD1/~{IRQ14} (io), 59 P27/PO7/TIOCA5/TIOCB5/~{IRQ15} (io), 60 P17/~{ANDSTRG}/~{IRQ7}-A/TCLKD-B/SCL0 (io), 62 P16/SCK3/~{DACK1}-A/~{IRQ6}-A/TCLKC-B/SDA0 (io), 64 P15/RXD3/~{TEND1}-A/~{IRQ5}-A/TCLKB-B/SCL1 (io), 65 P14/TXD3/~{DREQ1}-A/~{IRQ4}-A/TCLKA-B/SDA1 (io), 66 P13/~{ADTRG0}/~{IRQ3}-A (io), 67 P12/SCK2/~{DACK0}-A/~{IRQ2}-A (io), 68 P11/RXD2/~{TEND0}-A/~{IRQ1}-A (io), 69 P10/TXD2/~{DREQ0}-A/~{IRQ0}-A (io), 70 EMLE (in), 71 PH0/D0 (io), 72 PH1/D1 (io), 73 PH2/D2 (io), 74 PH3/D3 (io), 76 PH4/D4 (io), 77 PH5/D5 (io), 78 PH6/D6 (io), 79 PH7/D7 (io), 80 PI0/D8 (io), 81 PI1/D9 (io), 82 PI2/D10 (io), 84 PI3/D11 (io), 85 PI4/D12/TMO4 (io), 86 PI5/D13/TMO5 (io), 87 PI6/D14/TMO6 (io), 89 PI7/D15/TMO7 (io), 90 P37/PO15/TIOCA2/TIOCB2/TCLKD-A (io), 91 ~{RES} (in), 92 P36/PO14/TIOCA2 (io), 93 P35/PO13/TIOCA1/TIOCB1/TCLKC-A/~{DACK1}-B (io), 94 P34/PO12/TIOCA1/~{TEND1}-B (io), 95 P33/PO11/TIOCC0/TIOCD0/TCLKB-A/~{DREQ1}-B/~{CS3}/~{CS7}-A (io), 97 XTAL (in), 98 EXTAL (in), 100 P32/PO10/TIOCC0/TCLKA-A/~{DACK0}-B/~{CS2}-A/~{CS6}-A (io), 101 P31/PO9/TIOCA0/TIOCB0/~{TEND0}-B/~{CS1}/~{CS2}-B/~{CS5}-A/~{CS6}-B/~{CS7}-B (io), 102 ~{STBY} (in), 103 ~{WDTOVF}/TDO (out), 106 P30/PO8/TIOCA0/~{DREQ0}-B/~{CS0}/~{CS4}/~{CS5}-B (io), 107 P60/TMRI2/TXD4/~{IRQ8}-B (io), 108 P61/TMCI2/RXD4/~{IRQ9}-B (io), 109 P62/TMO2/SCK4/~{IRQ10}-B/~{TRST} (io), 111 P63/TMRI3/~{IRQ11}-B/TMS (io), 113 P64/TMCI3/~{IRQ12}-B/TDI (io), 114 P65/TMO3/~{IRQ13}-B/TCK (io), 116 NMI (in), 117 MD0 (in), 118 P50/AN0/~{IRQ0}-B (in), 119 P51/AN1/~{IRQ1}-B (in), 120 P52/AN2/~{IRQ2}-B (in), 122 P53/AN3/~{IRQ3}-B (in), 124 P54/AN4/~{IRQ4}-B (in), 125 VREF (in), 126 P55/AN5/~{IRQ5}-B (in), 127 P56/AN6/DA0/~{IRQ6}-B (io), 128 P57/AN7/DA1/~{IRQ7}-B (io), 131 AVCM, 132 ANDS0 (in), 133 ANDS1 (in), 134 ANDS2 (in), 135 ANDS3 (in), 136 ANDS4P (in), 137 ANDS4N (in), 138 ANDS5P (in), 139 ANDS5N (in), 142 REXT, 143 AVREFB (in), 144 AVREFT (in)
part B pins: 1 AVSSP (power), 2 AVCCP (power), 16 VSS (power), 24 VSS (power), 26 VCC (power), 28 VSS (power), 39 VSS (power), 45 VSS (power), 47 VCC (power), 61 VSS (power), 63 VCC (power), 75 VSS (power), 83 VCC (power), 88 VSS (power), 96 VSS (power), 99 VCC (power), 104 VCL, 105 VSS (power), 110 PLLVCC (power), 112 PLLVSS (power), 115 VCC (power), 121 AVCC (power), 123 AVSS (power), 129 AVSSD (power), 130 AVCCD (power), 140 AVCCA (power), 141 AVSSA (power)
part C pins: 7 NC, 8 NC, 9 NC

## R5F61622N50LGV
designator U?
Flash memory H8SX/1600 Series, 1622 Group MCU, 256K ROM, 24K RAM, TLP-145V Pkg; Published: 28-Aug-2009; DatasheetVersion: Rev.2.00, Sep-2009; PackageVersion: Jun-2006; PackageReference: PTLG0145JB-A; Publisher: Altium Limited; PackageDescription: 145-Ball Plastic Thin Fine-Pitch BGA, 9 x 9 mm Body, 0.65 mm Pitch; Supplier 1: Digi-Key; Supplier Part Number 1: R5F61622N50LGV-ND; Code_JEITA: P-TFLGA145-9x9-0.65; ComponentLink1Description: Manufacturer Link; ComponentLink1URL: http://sg.renesas.com/fmwk.jsp?cnt=h8sx_family_landing.jsp&fp=/products/mpumcu/h8sx_family/; ComponentLink2Description: Datasheet; ComponentLink2URL: http://documentation.renesas.com/eng/products/mpumcu/rej09b0414_h8sx1622hm.pdf; ComponentLink3Description: Packaging Specification; ComponentLink3URL: http://sg.renesas.com/media/products/common_info/package/pdf/ic/code/ptlg0145jb_a.pdf
footprint PTLG0145JB-A (BGA, 145-Leads, Body 9x9mm, Pitch 0.65mm)
part A pins: A2 AVREFT (in), A3 AVREFB (in), A5 ANDS4N (in), A6 ANDS1 (in), A8 VREF (in), A10 MD0 (in), A11 P64/TMCI3/~{IRQ12}-B/TDI (io), A12 P62/TMO2/SCK4/~{IRQ10}-B/~{TRST} (io), B2 P41 (in), B4 ANDS5P (in), B5 ANDS2 (in), B7 P54/AN4/~{IRQ4}-B (in), B8 P52/AN2/~{IRQ2}-B (in), B9 P50/AN0/~{IRQ0}-B (in), B11 P63/TMRI3/~{IRQ11}-B/TMS (io), B13 P61/TMCI2/RXD4/~{IRQ9}-B (io), C1 P42 (in), C2 P40 (in), C3 P43 (in), C4 REXT, C5 ANDS5N (in), C6 ANDS3 (in), C7 AVCM, C9 P51/AN1/~{IRQ1}-B (in), C10 NMI (in), C11 P65/TMO3/~{IRQ13}-B/TCK (io), C13 P30/PO8/TIOCA0/~{DREQ0}-B/~{CS0}/~{CS4}/~{CS5}-B (io), D4 ANDS4P (in), D5 ANDS0 (in), D6 P57/AN7/DA1/~{IRQ7}-B (io), D7 P56/AN6/DA0/~{IRQ6}-B (io), D8 P55/AN5/~{IRQ5}-B (in), D9 P53/AN3/~{IRQ3}-B (in), D10 ~{WDTOVF}/TDO (out), D11 P60/TMRI2/TXD4/~{IRQ8}-B (io), D12 P31/PO9/TIOCA0/TIOCB0/~{TEND0}-B/~{CS1}/~{CS2}-B/~{CS5}-A/~{CS6}-B/~{CS7}-B (io), E1 P47 (in), E2 P44 (in), E3 P45 (in), E4 MD2 (in), E11 ~{STBY} (in), E12 EXTAL (in), F1 PA0/~{BREQO}/~{BS}-A (io), F2 P46 (in), F3 MD1 (in), F4 PA1/~{BACK}/(RD/~{WR}) (io), F10 P33/PO11/TIOCC0/TIOCD0/TCLKB-A/~{DREQ1}-B/~{CS3}/~{CS7}-A (io), F11 P32/PO10/TIOCC0/TCLKA-A/~{DACK0}-B/~{CS2}-A/~{CS6}-A (io), F12 P36/PO14/TIOCA2 (io), F13 XTAL (in), G1 PA4/~{LHWR}/~{LUB} (io), G3 PA6/~{AS}/~{AH}/~{BS}-B (io), G4 PA2/~{BREQ}/~{WAIT} (io), G10 P37/PO15/TIOCA2/TIOCB2/TCLKD-A (io), G11 P34/PO12/TIOCA1/~{TEND1}-B (io), G12 PI7/D15/TMO7 (io), G13 P35/PO13/TIOCA1/TIOCB1/TCLKC-A/~{DACK1}-B (io), H1 PA7/BF (io), H2 PA5/~{RD} (io), H3 PF4/A20 (io), H4 PA3/~{LLWR}/~{LLB} (io), H10 PI5/D13/TMO5 (io), H12 PI4/D12/TMO4 (io), H13 ~{RES} (in), J1 PF3/A19 (io), J3 PF1/A17 (io), J11 PI3/D11 (io), J12 PI1/D9 (io), J13 PI6/D14/TMO6 (io), K1 PF0/A16 (io), K2 PF2/A18 (io), K3 PE6/A14 (io), K5 PD1/A1 (io), K6 P22/PO2/TIOCC3/TMO0/TXD0/~{IRQ10}-A (io), K7 P23/PO3/TIOCC3/TIOCD3/~{IRQ11}-A (io), K8 P24/PO4/TIOCA4/TIOCB4/TMRI1/SCK1 (io), K9 P17/~{ANDSTRG}/~{IRQ7}-A/TCLKD-B/SCL0 (io), K10 P15/RXD3/~{TEND1}-A/~{IRQ5}-A/TCLKB-B/SCL1 (io), K11 PI0/D8 (io), K12 PH7/D7 (io), K13 PI2/D10 (io), L1 PE5/A13 (io), L2 PE7/A15 (io), L3 PD7/A7 (io), L4 PD5/A5 (io), L6 PD0/A0 (io), L7 P27/PO7/TIOCA5/TIOCB5/~{IRQ15} (io), L9 P12/SCK2/~{DACK0}-A/~{IRQ2}-A (io), L10 EMLE (in), L11 PH5/D5 (io), L13 PH6/D6 (io), M1 PE4/A12 (io), M2 PE2/A10 (io), M4 PD6/A6 (io), M5 PD4/A4 (io), M6 PD3/A3 (io), M7 P20/PO0/TIOCA3/TIOCB3/TMRI0/SCK0/~{IRQ8}-A (io), M8 P26/PO6/TIOCA5/TMO1/TXD1 (io), M9 P16/SCK3/~{DACK1}-A/~{IRQ6}-A/TCLKC-B/SDA0 (io), M10 P13/~{ADTRG0}/~{IRQ3}-A (io), M11 P10/TXD2/~{DREQ0}-A/~{IRQ0}-A (io), M12 PH4/D4 (io), M13 PH2/D2 (io), N1 PE1/A9 (io), N2 PE3/A11 (io), N3 PE0/A8 (io), N5 PD2/A2 (io), N6 P21/PO1/TIOCA3/TMCI0/RXD0/~{IRQ9}-A (io), N7 P25/PO5/TIOCA4/TMCI1/RXD1 (io), N9 P14/TXD3/~{DREQ1}-A/~{IRQ4}-A/TCLKA-B/SDA1 (io), N10 P11/RXD2/~{TEND0}-A/~{IRQ1}-A (io), N11 PH0/D0 (io), N12 PH1/D1 (io), N13 PH3/D3 (io)
part B pins: A1 AVCCP (power), A4 AVCCA (power), A7 AVSSD (power), A9 AVCC (power), A13 PLLVCC (power), B1 AVSSP (power), B3 AVSSA (power), B6 AVCCD (power), B10 VCC (power), B12 PLLVSS (power), C8 AVSS (power), C12 VSS (power), D13 VCL, E10 VSS (power), E13 VCC (power), G2 VSS (power), H11 VSS (power), J2 VCC (power), J4 VSS (power), J10 VCC (power), K4 VSS (power), L5 VCC (power), L8 VCC (power), L12 VSS (power), M3 VSS (power), N4 VSS (power), N8 VSS (power)
part C pins: D1 NC, D2 NC, D3 NC, E5 NC

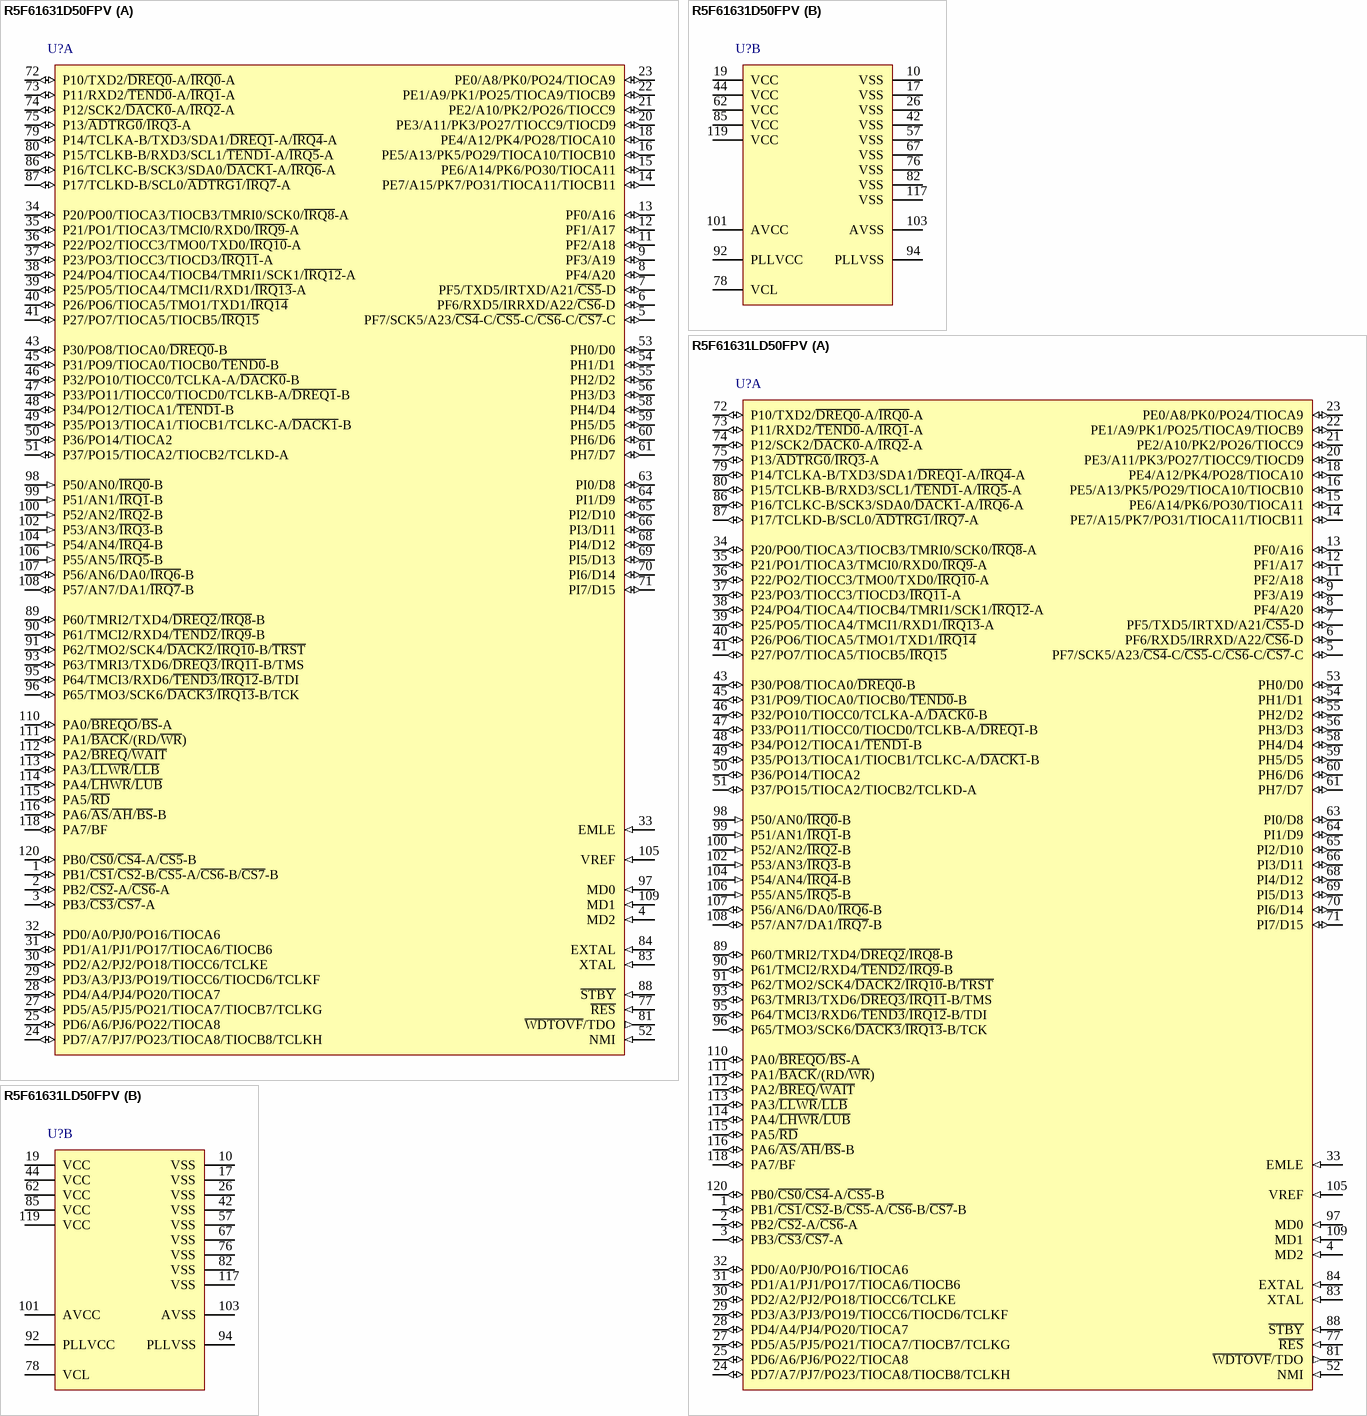
[diagram p4: symbols R5F61631D50FPV to R5F61631LD50FPV]

## R5F61631D50FPV
designator U?
Flash memory H8SX/1600 Series, 1635 Group MCU, 256K ROM, 24K RAM, FP-120B Pkg; Published: 28-Aug-2009; DatasheetVersion: Rev.2.00, Oct-2009; PackageVersion: Sep-2005; PackageReference: PLQP0120LA-A; Publisher: Altium Limited; PackageDescription: 120-Pin Plastic Low Profile QFP, 14 x 14 x 1.4 mm Body, 0.4 mm Pitch; Code_JEITA: P-LQFP120-14x14-0.40; ComponentLink1Description: Manufacturer Link; ComponentLink1URL: http://sg.renesas.com/fmwk.jsp?cnt=h8sx_family_landing.jsp&fp=/products/mpumcu/h8sx_family/; ComponentLink2Description: Datasheet; ComponentLink2URL: http://documentation.renesas.com/eng/products/mpumcu/rej09b0496_h8sx1635hm.pdf; ComponentLink3Description: Packaging Specification; ComponentLink3URL: http://sg.renesas.com/media/products/common_info/package/pdf/ic/code/plqp0120la_a.pdf
footprint PLQP0120LA-A_N (Shrink QFP, 120-Leads, Body 14x14mm, Pitch 0.4mm, IPC Medium Density)
footprint PLQP0120LA-A_L (Shrink QFP, 120-Leads, Body 14x14mm, Pitch 0.4mm, IPC High Density)
footprint PLQP0120LA-A_M (Shrink QFP, 120-Leads, Body 14x14mm, Pitch 0.4mm, IPC Low Density)
part A pins: 1 PB1/~{CS1}/~{CS2}-B/~{CS5}-A/~{CS6}-B/~{CS7}-B (io), 2 PB2/~{CS2}-A/~{CS6}-A (io), 3 PB3/~{CS3}/~{CS7}-A (io), 4 MD2 (in), 5 PF7/SCK5/A23/~{CS4}-C/~{CS5}-C/~{CS6}-C/~{CS7}-C (io), 6 PF6/RXD5/IRRXD/A22/~{CS6}-D (io), 7 PF5/TXD5/IRTXD/A21/~{CS5}-D (io), 8 PF4/A20 (io), 9 PF3/A19 (io), 11 PF2/A18 (io), 12 PF1/A17 (io), 13 PF0/A16 (io), 14 PE7/A15/PK7/PO31/TIOCA11/TIOCB11 (io), 15 PE6/A14/PK6/PO30/TIOCA11 (io), 16 PE5/A13/PK5/PO29/TIOCA10/TIOCB10 (io), 18 PE4/A12/PK4/PO28/TIOCA10 (io), 20 PE3/A11/PK3/PO27/TIOCC9/TIOCD9 (io), 21 PE2/A10/PK2/PO26/TIOCC9 (io), 22 PE1/A9/PK1/PO25/TIOCA9/TIOCB9 (io), 23 PE0/A8/PK0/PO24/TIOCA9 (io), 24 PD7/A7/PJ7/PO23/TIOCA8/TIOCB8/TCLKH (io), 25 PD6/A6/PJ6/PO22/TIOCA8 (io), 27 PD5/A5/PJ5/PO21/TIOCA7/TIOCB7/TCLKG (io), 28 PD4/A4/PJ4/PO20/TIOCA7 (io), 29 PD3/A3/PJ3/PO19/TIOCC6/TIOCD6/TCLKF (io), 30 PD2/A2/PJ2/PO18/TIOCC6/TCLKE (io), 31 PD1/A1/PJ1/PO17/TIOCA6/TIOCB6 (io), 32 PD0/A0/PJ0/PO16/TIOCA6 (io), 33 EMLE (in), 34 P20/PO0/TIOCA3/TIOCB3/TMRI0/SCK0/~{IRQ8}-A (io), 35 P21/PO1/TIOCA3/TMCI0/RXD0/~{IRQ9}-A (io), 36 P22/PO2/TIOCC3/TMO0/TXD0/~{IRQ10}-A (io), 37 P23/PO3/TIOCC3/TIOCD3/~{IRQ11}-A (io), 38 P24/PO4/TIOCA4/TIOCB4/TMRI1/SCK1/~{IRQ12}-A (io), 39 P25/PO5/TIOCA4/TMCI1/RXD1/~{IRQ13}-A (io), 40 P26/PO6/TIOCA5/TMO1/TXD1/~{IRQ14} (io), 41 P27/PO7/TIOCA5/TIOCB5/~{IRQ15} (io), 43 P30/PO8/TIOCA0/~{DREQ0}-B (io), 45 P31/PO9/TIOCA0/TIOCB0/~{TEND0}-B (io), 46 P32/PO10/TIOCC0/TCLKA-A/~{DACK0}-B (io), 47 P33/PO11/TIOCC0/TIOCD0/TCLKB-A/~{DREQ1}-B (io), 48 P34/PO12/TIOCA1/~{TEND1}-B (io), 49 P35/PO13/TIOCA1/TIOCB1/TCLKC-A/~{DACK1}-B (io), 50 P36/PO14/TIOCA2 (io), 51 P37/PO15/TIOCA2/TIOCB2/TCLKD-A (io), 52 NMI (in), 53 PH0/D0 (io), 54 PH1/D1 (io), 55 PH2/D2 (io), 56 PH3/D3 (io), 58 PH4/D4 (io), 59 PH5/D5 (io), 60 PH6/D6 (io), 61 PH7/D7 (io), 63 PI0/D8 (io), 64 PI1/D9 (io), 65 PI2/D10 (io), 66 PI3/D11 (io), 68 PI4/D12 (io), 69 PI5/D13 (io), 70 PI6/D14 (io), 71 PI7/D15 (io), 72 P10/TXD2/~{DREQ0}-A/~{IRQ0}-A (io), 73 P11/RXD2/~{TEND0}-A/~{IRQ1}-A (io), 74 P12/SCK2/~{DACK0}-A/~{IRQ2}-A (io), 75 P13/~{ADTRG0}/~{IRQ3}-A (io), 77 ~{RES} (in), 79 P14/TCLKA-B/TXD3/SDA1/~{DREQ1}-A/~{IRQ4}-A (io), 80 P15/TCLKB-B/RXD3/SCL1/~{TEND1}-A/~{IRQ5}-A (io), 81 ~{WDTOVF}/TDO (out), 83 XTAL (in), 84 EXTAL (in), 86 P16/TCLKC-B/SCK3/SDA0/~{DACK1}-A/~{IRQ6}-A (io), 87 P17/TCLKD-B/SCL0/~{ADTRG1}/~{IRQ7}-A (io), 88 ~{STBY} (in), 89 P60/TMRI2/TXD4/~{DREQ2}/~{IRQ8}-B (io), 90 P61/TMCI2/RXD4/~{TEND2}/~{IRQ9}-B (io), 91 P62/TMO2/SCK4/~{DACK2}/~{IRQ10}-B/~{TRST} (io), 93 P63/TMRI3/TXD6/~{DREQ3}/~{IRQ11}-B/TMS (io), 95 P64/TMCI3/RXD6/~{TEND3}/~{IRQ12}-B/TDI (io), 96 P65/TMO3/SCK6/~{DACK3}/~{IRQ13}-B/TCK (io), 97 MD0 (in), 98 P50/AN0/~{IRQ0}-B (in), 99 P51/AN1/~{IRQ1}-B (in), 100 P52/AN2/~{IRQ2}-B (in), 102 P53/AN3/~{IRQ3}-B (in), 104 P54/AN4/~{IRQ4}-B (in), 105 VREF (in), 106 P55/AN5/~{IRQ5}-B (in), 107 P56/AN6/DA0/~{IRQ6}-B (io), 108 P57/AN7/DA1/~{IRQ7}-B (io), 109 MD1 (in), 110 PA0/~{BREQO}/~{BS}-A (io), 111 PA1/~{BACK}/(RD/~{WR}) (io), 112 PA2/~{BREQ}/~{WAIT} (io), 113 PA3/~{LLWR}/~{LLB} (io), 114 PA4/~{LHWR}/~{LUB} (io), 115 PA5/~{RD} (io), 116 PA6/~{AS}/~{AH}/~{BS}-B (io), 118 PA7/BF (io), 120 PB0/~{CS0}/~{CS4}-A/~{CS5}-B (io)
part B pins: 10 VSS (power), 17 VSS (power), 19 VCC (power), 26 VSS (power), 42 VSS (power), 44 VCC (power), 57 VSS (power), 62 VCC (power), 67 VSS (power), 76 VSS (power), 78 VCL, 82 VSS (power), 85 VCC (power), 92 PLLVCC (power), 94 PLLVSS (power), 101 AVCC (power), 103 AVSS (power), 117 VSS (power), 119 VCC (power)

## R5F61631LD50FPV
designator U?
Flash memory H8SX/1600 Series, 1635L Group MCU, 256K ROM, 24K RAM, FP-120B Pkg; Published: 12-Feb-2010; DatasheetVersion: Rev.2.00, Oct-2009; PackageVersion: Sep-2005; PackageReference: PLQP0120LA-A; Publisher: Altium Limited; PackageDescription: 120-Pin Plastic Low Profile QFP, 14 x 14 x 1.4 mm Body, 0.4 mm Pitch; Code_JEITA: P-LQFP120-14x14-0.40; ComponentLink1Description: Manufacturer Link; ComponentLink1URL: http://sg.renesas.com/fmwk.jsp?cnt=h8sx_family_landing.jsp&fp=/products/mpumcu/h8sx_family/; ComponentLink2Description: Datasheet; ComponentLink2URL: http://documentation.renesas.com/eng/products/mpumcu/rej09b0496_h8sx1635hm.pdf; ComponentLink3Description: Packaging Specification; ComponentLink3URL: http://sg.renesas.com/media/products/common_info/package/pdf/ic/code/plqp0120la_a.pdf
footprint PLQP0120LA-A_N (Shrink QFP, 120-Leads, Body 14x14mm, Pitch 0.4mm, IPC Medium Density)
footprint PLQP0120LA-A_L (Shrink QFP, 120-Leads, Body 14x14mm, Pitch 0.4mm, IPC High Density)
footprint PLQP0120LA-A_M (Shrink QFP, 120-Leads, Body 14x14mm, Pitch 0.4mm, IPC Low Density)
part A pins: 1 PB1/~{CS1}/~{CS2}-B/~{CS5}-A/~{CS6}-B/~{CS7}-B (io), 2 PB2/~{CS2}-A/~{CS6}-A (io), 3 PB3/~{CS3}/~{CS7}-A (io), 4 MD2 (in), 5 PF7/SCK5/A23/~{CS4}-C/~{CS5}-C/~{CS6}-C/~{CS7}-C (io), 6 PF6/RXD5/IRRXD/A22/~{CS6}-D (io), 7 PF5/TXD5/IRTXD/A21/~{CS5}-D (io), 8 PF4/A20 (io), 9 PF3/A19 (io), 11 PF2/A18 (io), 12 PF1/A17 (io), 13 PF0/A16 (io), 14 PE7/A15/PK7/PO31/TIOCA11/TIOCB11 (io), 15 PE6/A14/PK6/PO30/TIOCA11 (io), 16 PE5/A13/PK5/PO29/TIOCA10/TIOCB10 (io), 18 PE4/A12/PK4/PO28/TIOCA10 (io), 20 PE3/A11/PK3/PO27/TIOCC9/TIOCD9 (io), 21 PE2/A10/PK2/PO26/TIOCC9 (io), 22 PE1/A9/PK1/PO25/TIOCA9/TIOCB9 (io), 23 PE0/A8/PK0/PO24/TIOCA9 (io), 24 PD7/A7/PJ7/PO23/TIOCA8/TIOCB8/TCLKH (io), 25 PD6/A6/PJ6/PO22/TIOCA8 (io), 27 PD5/A5/PJ5/PO21/TIOCA7/TIOCB7/TCLKG (io), 28 PD4/A4/PJ4/PO20/TIOCA7 (io), 29 PD3/A3/PJ3/PO19/TIOCC6/TIOCD6/TCLKF (io), 30 PD2/A2/PJ2/PO18/TIOCC6/TCLKE (io), 31 PD1/A1/PJ1/PO17/TIOCA6/TIOCB6 (io), 32 PD0/A0/PJ0/PO16/TIOCA6 (io), 33 EMLE (in), 34 P20/PO0/TIOCA3/TIOCB3/TMRI0/SCK0/~{IRQ8}-A (io), 35 P21/PO1/TIOCA3/TMCI0/RXD0/~{IRQ9}-A (io), 36 P22/PO2/TIOCC3/TMO0/TXD0/~{IRQ10}-A (io), 37 P23/PO3/TIOCC3/TIOCD3/~{IRQ11}-A (io), 38 P24/PO4/TIOCA4/TIOCB4/TMRI1/SCK1/~{IRQ12}-A (io), 39 P25/PO5/TIOCA4/TMCI1/RXD1/~{IRQ13}-A (io), 40 P26/PO6/TIOCA5/TMO1/TXD1/~{IRQ14} (io), 41 P27/PO7/TIOCA5/TIOCB5/~{IRQ15} (io), 43 P30/PO8/TIOCA0/~{DREQ0}-B (io), 45 P31/PO9/TIOCA0/TIOCB0/~{TEND0}-B (io), 46 P32/PO10/TIOCC0/TCLKA-A/~{DACK0}-B (io), 47 P33/PO11/TIOCC0/TIOCD0/TCLKB-A/~{DREQ1}-B (io), 48 P34/PO12/TIOCA1/~{TEND1}-B (io), 49 P35/PO13/TIOCA1/TIOCB1/TCLKC-A/~{DACK1}-B (io), 50 P36/PO14/TIOCA2 (io), 51 P37/PO15/TIOCA2/TIOCB2/TCLKD-A (io), 52 NMI (in), 53 PH0/D0 (io), 54 PH1/D1 (io), 55 PH2/D2 (io), 56 PH3/D3 (io), 58 PH4/D4 (io), 59 PH5/D5 (io), 60 PH6/D6 (io), 61 PH7/D7 (io), 63 PI0/D8 (io), 64 PI1/D9 (io), 65 PI2/D10 (io), 66 PI3/D11 (io), 68 PI4/D12 (io), 69 PI5/D13 (io), 70 PI6/D14 (io), 71 PI7/D15 (io), 72 P10/TXD2/~{DREQ0}-A/~{IRQ0}-A (io), 73 P11/RXD2/~{TEND0}-A/~{IRQ1}-A (io), 74 P12/SCK2/~{DACK0}-A/~{IRQ2}-A (io), 75 P13/~{ADTRG0}/~{IRQ3}-A (io), 77 ~{RES} (in), 79 P14/TCLKA-B/TXD3/SDA1/~{DREQ1}-A/~{IRQ4}-A (io), 80 P15/TCLKB-B/RXD3/SCL1/~{TEND1}-A/~{IRQ5}-A (io), 81 ~{WDTOVF}/TDO (out), 83 XTAL (in), 84 EXTAL (in), 86 P16/TCLKC-B/SCK3/SDA0/~{DACK1}-A/~{IRQ6}-A (io), 87 P17/TCLKD-B/SCL0/~{ADTRG1}/~{IRQ7}-A (io), 88 ~{STBY} (in), 89 P60/TMRI2/TXD4/~{DREQ2}/~{IRQ8}-B (io), 90 P61/TMCI2/RXD4/~{TEND2}/~{IRQ9}-B (io), 91 P62/TMO2/SCK4/~{DACK2}/~{IRQ10}-B/~{TRST} (io), 93 P63/TMRI3/TXD6/~{DREQ3}/~{IRQ11}-B/TMS (io), 95 P64/TMCI3/RXD6/~{TEND3}/~{IRQ12}-B/TDI (io), 96 P65/TMO3/SCK6/~{DACK3}/~{IRQ13}-B/TCK (io), 97 MD0 (in), 98 P50/AN0/~{IRQ0}-B (in), 99 P51/AN1/~{IRQ1}-B (in), 100 P52/AN2/~{IRQ2}-B (in), 102 P53/AN3/~{IRQ3}-B (in), 104 P54/AN4/~{IRQ4}-B (in), 105 VREF (in), 106 P55/AN5/~{IRQ5}-B (in), 107 P56/AN6/DA0/~{IRQ6}-B (io), 108 P57/AN7/DA1/~{IRQ7}-B (io), 109 MD1 (in), 110 PA0/~{BREQO}/~{BS}-A (io), 111 PA1/~{BACK}/(RD/~{WR}) (io), 112 PA2/~{BREQ}/~{WAIT} (io), 113 PA3/~{LLWR}/~{LLB} (io), 114 PA4/~{LHWR}/~{LUB} (io), 115 PA5/~{RD} (io), 116 PA6/~{AS}/~{AH}/~{BS}-B (io), 118 PA7/BF (io), 120 PB0/~{CS0}/~{CS4}-A/~{CS5}-B (io)
part B pins: 10 VSS (power), 17 VSS (power), 19 VCC (power), 26 VSS (power), 42 VSS (power), 44 VCC (power), 57 VSS (power), 62 VCC (power), 67 VSS (power), 76 VSS (power), 78 VCL, 82 VSS (power), 85 VCC (power), 92 PLLVCC (power), 94 PLLVSS (power), 101 AVCC (power), 103 AVSS (power), 117 VSS (power), 119 VCC (power)

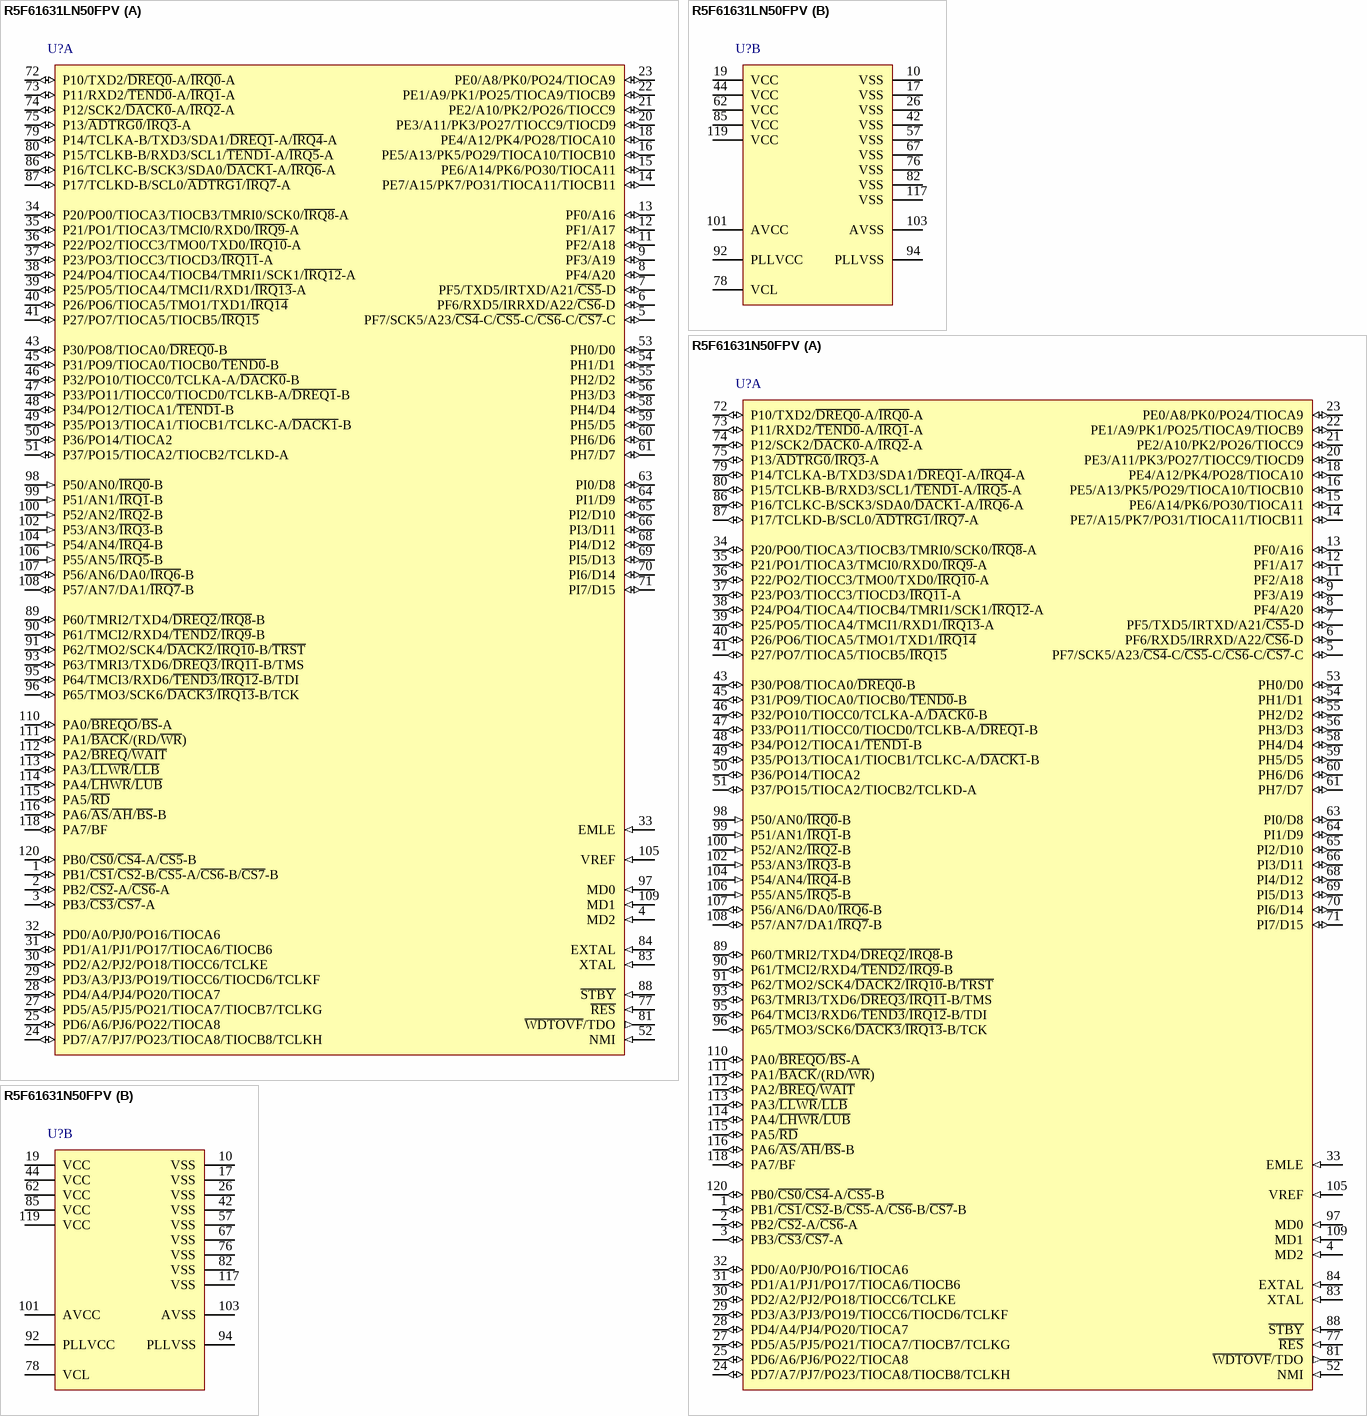
[diagram p5: symbols R5F61631LN50FPV to R5F61631N50FPV]

## R5F61631LN50FPV
designator U?
Flash memory H8SX/1600 Series, 1635L Group MCU, 256K ROM, 24K RAM, FP-120B Pkg; Published: 12-Feb-2010; DatasheetVersion: Rev.2.00, Oct-2009; PackageVersion: Sep-2005; PackageReference: PLQP0120LA-A; Publisher: Altium Limited; PackageDescription: 120-Pin Plastic Low Profile QFP, 14 x 14 x 1.4 mm Body, 0.4 mm Pitch; Code_JEITA: P-LQFP120-14x14-0.40; ComponentLink1Description: Manufacturer Link; ComponentLink1URL: http://sg.renesas.com/fmwk.jsp?cnt=h8sx_family_landing.jsp&fp=/products/mpumcu/h8sx_family/; ComponentLink2Description: Datasheet; ComponentLink2URL: http://documentation.renesas.com/eng/products/mpumcu/rej09b0496_h8sx1635hm.pdf; ComponentLink3Description: Packaging Specification; ComponentLink3URL: http://sg.renesas.com/media/products/common_info/package/pdf/ic/code/plqp0120la_a.pdf
footprint PLQP0120LA-A_N (Shrink QFP, 120-Leads, Body 14x14mm, Pitch 0.4mm, IPC Medium Density)
footprint PLQP0120LA-A_L (Shrink QFP, 120-Leads, Body 14x14mm, Pitch 0.4mm, IPC High Density)
footprint PLQP0120LA-A_M (Shrink QFP, 120-Leads, Body 14x14mm, Pitch 0.4mm, IPC Low Density)
part A pins: 1 PB1/~{CS1}/~{CS2}-B/~{CS5}-A/~{CS6}-B/~{CS7}-B (io), 2 PB2/~{CS2}-A/~{CS6}-A (io), 3 PB3/~{CS3}/~{CS7}-A (io), 4 MD2 (in), 5 PF7/SCK5/A23/~{CS4}-C/~{CS5}-C/~{CS6}-C/~{CS7}-C (io), 6 PF6/RXD5/IRRXD/A22/~{CS6}-D (io), 7 PF5/TXD5/IRTXD/A21/~{CS5}-D (io), 8 PF4/A20 (io), 9 PF3/A19 (io), 11 PF2/A18 (io), 12 PF1/A17 (io), 13 PF0/A16 (io), 14 PE7/A15/PK7/PO31/TIOCA11/TIOCB11 (io), 15 PE6/A14/PK6/PO30/TIOCA11 (io), 16 PE5/A13/PK5/PO29/TIOCA10/TIOCB10 (io), 18 PE4/A12/PK4/PO28/TIOCA10 (io), 20 PE3/A11/PK3/PO27/TIOCC9/TIOCD9 (io), 21 PE2/A10/PK2/PO26/TIOCC9 (io), 22 PE1/A9/PK1/PO25/TIOCA9/TIOCB9 (io), 23 PE0/A8/PK0/PO24/TIOCA9 (io), 24 PD7/A7/PJ7/PO23/TIOCA8/TIOCB8/TCLKH (io), 25 PD6/A6/PJ6/PO22/TIOCA8 (io), 27 PD5/A5/PJ5/PO21/TIOCA7/TIOCB7/TCLKG (io), 28 PD4/A4/PJ4/PO20/TIOCA7 (io), 29 PD3/A3/PJ3/PO19/TIOCC6/TIOCD6/TCLKF (io), 30 PD2/A2/PJ2/PO18/TIOCC6/TCLKE (io), 31 PD1/A1/PJ1/PO17/TIOCA6/TIOCB6 (io), 32 PD0/A0/PJ0/PO16/TIOCA6 (io), 33 EMLE (in), 34 P20/PO0/TIOCA3/TIOCB3/TMRI0/SCK0/~{IRQ8}-A (io), 35 P21/PO1/TIOCA3/TMCI0/RXD0/~{IRQ9}-A (io), 36 P22/PO2/TIOCC3/TMO0/TXD0/~{IRQ10}-A (io), 37 P23/PO3/TIOCC3/TIOCD3/~{IRQ11}-A (io), 38 P24/PO4/TIOCA4/TIOCB4/TMRI1/SCK1/~{IRQ12}-A (io), 39 P25/PO5/TIOCA4/TMCI1/RXD1/~{IRQ13}-A (io), 40 P26/PO6/TIOCA5/TMO1/TXD1/~{IRQ14} (io), 41 P27/PO7/TIOCA5/TIOCB5/~{IRQ15} (io), 43 P30/PO8/TIOCA0/~{DREQ0}-B (io), 45 P31/PO9/TIOCA0/TIOCB0/~{TEND0}-B (io), 46 P32/PO10/TIOCC0/TCLKA-A/~{DACK0}-B (io), 47 P33/PO11/TIOCC0/TIOCD0/TCLKB-A/~{DREQ1}-B (io), 48 P34/PO12/TIOCA1/~{TEND1}-B (io), 49 P35/PO13/TIOCA1/TIOCB1/TCLKC-A/~{DACK1}-B (io), 50 P36/PO14/TIOCA2 (io), 51 P37/PO15/TIOCA2/TIOCB2/TCLKD-A (io), 52 NMI (in), 53 PH0/D0 (io), 54 PH1/D1 (io), 55 PH2/D2 (io), 56 PH3/D3 (io), 58 PH4/D4 (io), 59 PH5/D5 (io), 60 PH6/D6 (io), 61 PH7/D7 (io), 63 PI0/D8 (io), 64 PI1/D9 (io), 65 PI2/D10 (io), 66 PI3/D11 (io), 68 PI4/D12 (io), 69 PI5/D13 (io), 70 PI6/D14 (io), 71 PI7/D15 (io), 72 P10/TXD2/~{DREQ0}-A/~{IRQ0}-A (io), 73 P11/RXD2/~{TEND0}-A/~{IRQ1}-A (io), 74 P12/SCK2/~{DACK0}-A/~{IRQ2}-A (io), 75 P13/~{ADTRG0}/~{IRQ3}-A (io), 77 ~{RES} (in), 79 P14/TCLKA-B/TXD3/SDA1/~{DREQ1}-A/~{IRQ4}-A (io), 80 P15/TCLKB-B/RXD3/SCL1/~{TEND1}-A/~{IRQ5}-A (io), 81 ~{WDTOVF}/TDO (out), 83 XTAL (in), 84 EXTAL (in), 86 P16/TCLKC-B/SCK3/SDA0/~{DACK1}-A/~{IRQ6}-A (io), 87 P17/TCLKD-B/SCL0/~{ADTRG1}/~{IRQ7}-A (io), 88 ~{STBY} (in), 89 P60/TMRI2/TXD4/~{DREQ2}/~{IRQ8}-B (io), 90 P61/TMCI2/RXD4/~{TEND2}/~{IRQ9}-B (io), 91 P62/TMO2/SCK4/~{DACK2}/~{IRQ10}-B/~{TRST} (io), 93 P63/TMRI3/TXD6/~{DREQ3}/~{IRQ11}-B/TMS (io), 95 P64/TMCI3/RXD6/~{TEND3}/~{IRQ12}-B/TDI (io), 96 P65/TMO3/SCK6/~{DACK3}/~{IRQ13}-B/TCK (io), 97 MD0 (in), 98 P50/AN0/~{IRQ0}-B (in), 99 P51/AN1/~{IRQ1}-B (in), 100 P52/AN2/~{IRQ2}-B (in), 102 P53/AN3/~{IRQ3}-B (in), 104 P54/AN4/~{IRQ4}-B (in), 105 VREF (in), 106 P55/AN5/~{IRQ5}-B (in), 107 P56/AN6/DA0/~{IRQ6}-B (io), 108 P57/AN7/DA1/~{IRQ7}-B (io), 109 MD1 (in), 110 PA0/~{BREQO}/~{BS}-A (io), 111 PA1/~{BACK}/(RD/~{WR}) (io), 112 PA2/~{BREQ}/~{WAIT} (io), 113 PA3/~{LLWR}/~{LLB} (io), 114 PA4/~{LHWR}/~{LUB} (io), 115 PA5/~{RD} (io), 116 PA6/~{AS}/~{AH}/~{BS}-B (io), 118 PA7/BF (io), 120 PB0/~{CS0}/~{CS4}-A/~{CS5}-B (io)
part B pins: 10 VSS (power), 17 VSS (power), 19 VCC (power), 26 VSS (power), 42 VSS (power), 44 VCC (power), 57 VSS (power), 62 VCC (power), 67 VSS (power), 76 VSS (power), 78 VCL, 82 VSS (power), 85 VCC (power), 92 PLLVCC (power), 94 PLLVSS (power), 101 AVCC (power), 103 AVSS (power), 117 VSS (power), 119 VCC (power)